# Altium integrated library altera.IntLib: 68 symbols (part 2 of 6)
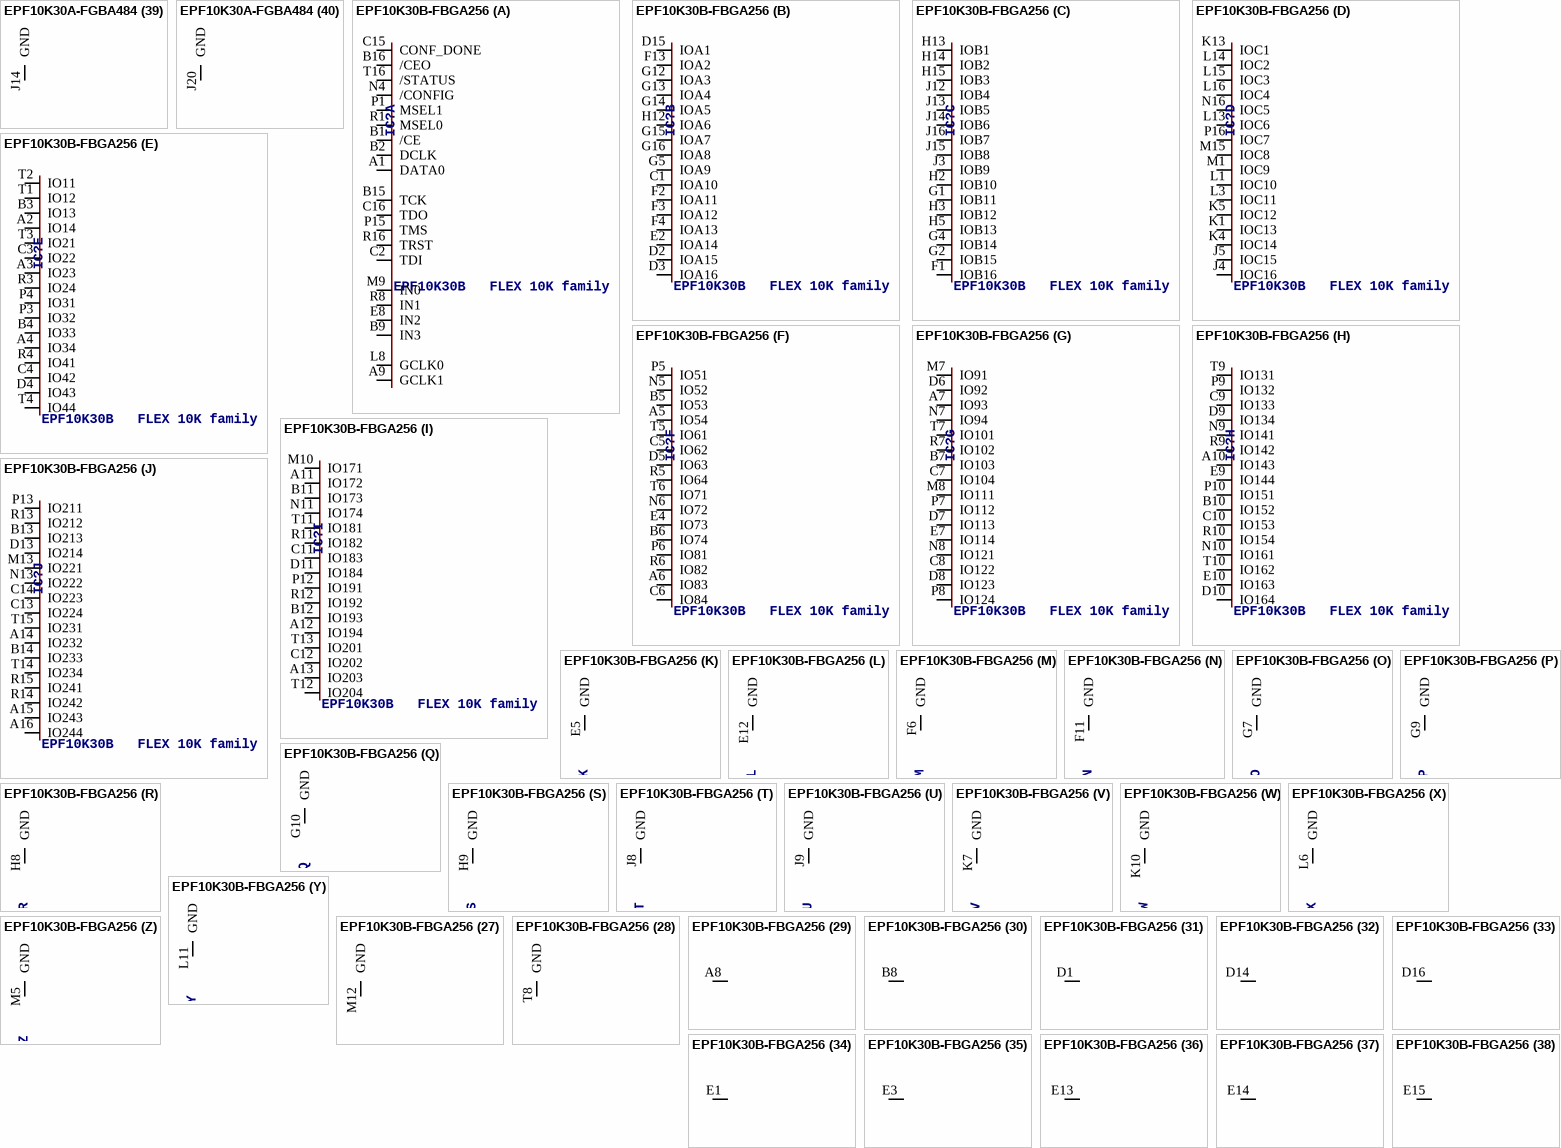
[diagram p58: symbols EPF10K30A-FGBA484 to EPF10K30B-FBGA256]

## EPF10K30A-FGBA484
designator IC?, comment EPF10K30   FLEX 10K family
MPN: EPF10K30AFC484-1; OC_FARNELL: unknown; OC_NEWARK: 51R8942
footprint FBGA484
part A pins: D4 DATA0, D12 GCLK1, E4 /CE, E5 DCLK, E12 IN3, E18 TCK, E19 /CEO, F5 TDI, F18 CONF_DONE, F19 TDO, H11 IN2, P11 GCLK0, R12 IN0, T7 /CONFIG, U4 MSEL0, U18 TMS, V4 MSEL1, V11 IN1, V19 TRST, W19 /STATUS
part B pins: F4 IOA9, G5 IOA8, G6 IOA10, G18 IOA4, G19 IOA3, H4 IOA6, H16 IOA1, H17 IOA2, H18 IOA5, J6 IOA11, J7 IOA7, J16 IOA12
part C pins: H5 IOB10, J4 IOB8, J5 IOB7, J17 IOB1, J18 IOB4, J19 IOB11, K7 IOB6, K8 IOB9, K15 IOB2, K16 IOB3, L8 IOB5
part D pins: K4 IOC11, K5 IOC10, K17 IOC1, K18 IOC3, K19 IOC4, L5 IOC7, L6 IOC8, L7 IOC9, L15 IOC2, L16 IOC12, L17 IOC5, M8 IOC6
part E pins: L18 IOD1, M5 IOD9, M6 IOD10, M7 IOD11, M15 IOD2, M16 IOD3, M17 IOD4, M18 IOD6, M19 IOD5, N4 IOD8, N7 IOD12, N15 IOD7
part F pins: N5 IOE10, N8 IOE9, N16 IOE2, N18 IOE1, P4 IOE8, P6 IOE11, P16 IOE6, P17 IOE3, P18 IOE4, P19 IOE5, R5 IOE7
part G pins: R4 IOF10, R6 IOF11, R7 IOF9, R16 IOF2, R18 IOF1, T4 IOF6, T5 IOF8, T6 IOF7, T16 IOF12, T17 IOF3, T19 IOF4, U5 IOF5
part H pins: AA5 IO44, C3 IO14, C4 IO24, C5 IO34, D5 IO22, D6 IO42, E6 IO12, E7 IO43, F6 IO32, U6 IO31, V6 IO41, W3 IO13, W4 IO11, W5 IO23, W6 IO21, Y5 IO33
part I pins: AB6 IO84, B6 IO53, B7 IO83, C7 IO74, D7 IO52, D8 IO82, E8 IO72, F7 IO62, G7 IO63, T8 IO71, U7 IO51, U8 IO81, V7 IO73, W7 IO61, Y6 IO54, Y7 IO64
part J pins: AA7 IO92, AA8 IO114, B8 IO104, C8 IO94, D9 IO123, E9 IO112, F8 IO93, F9 IO122, G8 IO102, H7 IO113, T9 IO101, U9 IO111, V8 IO103, V9 IO121, W8 IO91, W9 IO124
part K pins: A10 IO134, AA10 IO164, B11 IO163, D10 IO143, E10 IO144, F10 IO153, G9 IO132, G10 IO152, H10 IO162, R10 IO133, R11 IO161, T10 IO131, U10 IO142, V10 IO151, W10 IO141, Y10 IO154
part L pins: AB10 IO174, B13 IO194, D11 IO173, E11 IO172, F11 IO182, F12 IO192, G11 IO181, G12 IO204, H12 IO203, T11 IO171, T12 IO201, U11 IO183, U12 IO202, V12 IO193, W12 IO191, Y11 IO184
part M pins: AA14 IO234, AB14 IO224, B14 IO214, B15 IO243, D13 IO212, D14 IO242, E13 IO223, F13 IO222, G13 IO233, H13 IO232, R13 IO241, T13 IO231, U13 IO213, V13 IO211, W13 IO221, Y14 IO244
part N pins: A16 IO254, A17 IO272, AA16 IO284, D15 IO273, E14 IO252, E15 IO282, F14 IO264, F15 IO283, G14 IO263, T14 IO261, U14 IO262, U15 IO281, V14 IO253, V15 IO271, W14 IO251, Y15 IO274
part O pins: A18 IO294, A19 IO303, AA17 IO304, AA18 IO313, B18 IO314, D16 IO302, E16 IO312, F16 IO292, G16 IO323, G17 IO322, U16 IO301, U17 IO293, V16 IO321, W15 IO291, W16 IO311, Y17 IO324
part P pins: AA19 IO344, AA20 IO353, C18 IO334, C19 IO354, C20 IO364, D17 IO342, D18 IO352, D19 IO362, E17 IO343, F17 IO332, U19 IO363, V17 IO331, V18 IO361, W17 IO341, W18 IO351, Y18 IO333
part Q pins: AA1 GND (power)
part R pins: AA6 GND (power)
part S pins: AA22 GND (power)
part T pins: AB11 GND (power)
part U pins: AB16 GND (power)
part V pins: A1 GND (power)
part W pins: A8 GND (power)
part X pins: A22 GND (power)
part Y pins: B1 GND (power)
part Z pins: B2 GND (power)
part 27 pins: B17 GND (power)
part 28 pins: B21 GND (power)
part 29 pins: B22 GND (power)
part 30 pins: C2 GND (power)
part 31 pins: C21 GND (power)
part 32 pins: E21 GND (power)
part 33 pins: G3 GND (power)
part 34 pins: G21 GND (power)
part 35 pins: H2 GND (power)
part 36 pins: H8 GND (power)
part 37 pins: H15 GND (power)
part 38 pins: J9 GND (power)
part 39 pins: J14 GND (power)
part 40 pins: J20 GND (power)
part 41 pins: K3 GND (power)
part 42 pins: K10 GND (power)
part 43 pins: K12 GND (power)
part 44 pins: K13 GND (power)
part 45 pins: L11 GND (power)
part 46 pins: L12 GND (power)
part 47 pins: M11 GND (power)
part 48 pins: M12 GND (power)
part 49 pins: M20 GND (power)
part 50 pins: N10 GND (power)
part 51 pins: N13 GND (power)
part 52 pins: P9 GND (power)
part 53 pins: P14 GND (power)
part 54 pins: R8 GND (power)
part 55 pins: R15 GND (power)
part 56 pins: R22 GND (power)
part 57 pins: T1 GND (power)
part 58 pins: V3 GND (power)
part 59 pins: W11 GND (power)
part 60 pins: W20 GND (power)
part 61 pins: Y1 GND (power)
part 62 pins: Y2 GND (power)
part 63 pins: Y3 GND (power)
part 64 pins: Y21 GND (power)
part 65 pins: Y22 GND (power)
part 66 pins: AA2 NC
part 67 pins: AA3 NC
part 68 pins: AA4 NC
part 69 pins: AA9 NC
part 70 pins: AA11 NC
part 71 pins: AA13 NC
part 72 pins: AA15 NC
part 73 pins: AA21 NC
part 74 pins: AB1 NC
part 75 pins: AB2 NC
part 76 pins: AB3 NC
part 77 pins: AB4 NC
part 78 pins: AB5 NC
part 79 pins: AB7 NC
part 80 pins: AB8 NC
part 81 pins: AB9 NC
part 82 pins: AB12 NC
part 83 pins: AB15 NC
part 84 pins: AB17 NC
part 85 pins: AB18 NC
part 86 pins: AB19 NC
part 87 pins: AB20 NC
part 88 pins: AB21 NC
part 89 pins: AB22 NC
part 90 pins: A2 NC
part 91 pins: A3 NC
part 92 pins: A4 NC
part 93 pins: A5 NC
part 94 pins: A7 NC
part 95 pins: A9 NC
part 96 pins: A11 NC
part 97 pins: A12 NC
part 98 pins: A14 NC
part 99 pins: A15 NC
part 100 pins: A20 NC
part 101 pins: A21 NC
part 102 pins: B3 NC
part 103 pins: B4 NC
part 104 pins: B9 NC
part 105 pins: B10 NC
part 106 pins: B12 NC
part 107 pins: B16 NC
part 108 pins: B19 NC
part 109 pins: B20 NC
part 110 pins: C1 NC
part 111 pins: C6 NC
part 112 pins: C9 NC
part 113 pins: C10 NC
part 114 pins: C12 NC
part 115 pins: C13 NC
part 116 pins: C14 NC
part 117 pins: C16 NC
part 118 pins: C17 NC
part 119 pins: C22 NC
part 120 pins: D1 NC
part 121 pins: D2 NC
part 122 pins: D3 NC
part 123 pins: D20 NC
part 124 pins: D21 NC
part 125 pins: D22 NC
part 126 pins: E2 NC
part 127 pins: E3 NC
part 128 pins: E20 NC
part 129 pins: E22 NC
part 130 pins: F1 NC
part 131 pins: F2 NC
part 132 pins: F3 NC
part 133 pins: F20 NC
part 134 pins: F21 NC
part 135 pins: F22 NC
part 136 pins: G2 NC
part 137 pins: G4 NC
part 138 pins: G20 NC
part 139 pins: G22 NC
part 140 pins: H1 NC
part 141 pins: H3 NC
part 142 pins: H6 NC
part 143 pins: H19 NC
part 144 pins: H21 NC
part 145 pins: H22 NC
part 146 pins: J1 NC
part 147 pins: J2 NC
part 148 pins: J3 NC
part 149 pins: J21 NC
part 150 pins: J22 NC
part 151 pins: K1 NC
part 152 pins: K2 NC
part 153 pins: K6 NC
part 154 pins: K21 NC
part 155 pins: K22 NC
part 156 pins: L1 NC
part 157 pins: L2 NC
part 158 pins: L3 NC
part 159 pins: L4 NC
part 160 pins: L19 NC
part 161 pins: L20 NC
part 162 pins: L21 NC
part 163 pins: L22 NC
part 164 pins: M1 NC
part 165 pins: M2 NC
part 166 pins: M3 NC
part 167 pins: M4 NC
part 168 pins: M21 NC
part 169 pins: M22 NC
part 170 pins: N1 NC
part 171 pins: N2 NC
part 172 pins: N6 NC
part 173 pins: N17 NC
part 174 pins: N19 NC
part 175 pins: U21 NC
part 176 pins: N21 NC
part 177 pins: N22 NC
part 178 pins: P1 NC
part 179 pins: P2 NC
part 180 pins: P3 NC
part 181 pins: P5 NC
part 182 pins: P7 NC
part 183 pins: P20 NC
part 184 pins: P21 NC
part 185 pins: P22 NC
part 186 pins: R2 NC
part 187 pins: R3 NC
part 188 pins: R17 NC
part 189 pins: R19 NC
part 190 pins: R20 NC
part 191 pins: R21 NC
part 192 pins: T2 NC
part 193 pins: T18 NC
part 194 pins: T20 NC
part 195 pins: T21 NC
part 196 pins: U1 NC
part 197 pins: U2 NC
part 198 pins: U3 NC
part 199 pins: U20 NC
part 200 pins: U22 NC
part 201 pins: V1 NC
part 202 pins: V2 NC
part 203 pins: V20 NC
part 204 pins: V21 NC
part 205 pins: W1 NC
part 206 pins: W2 NC
part 207 pins: W22 NC
part 208 pins: Y4 NC
part 209 pins: Y9 NC
part 210 pins: Y12 NC
part 211 pins: Y13 NC
part 212 pins: Y16 NC
part 213 pins: Y19 NC
part 214 pins: Y20 NC
part 215 pins: AA12 VCC (power)
part 216 pins: C11 VCC (power)
part 217 pins: C15 VCC (power)
part 218 pins: H14 VCC (power)
part 219 pins: J8 VCC (power)
part 220 pins: J10 VCC (power)
part 221 pins: J12 VCC (power)
part 222 pins: J15 VCC (power)
part 223 pins: L9 VCC (power)
part 224 pins: L10 VCC (power)
part 225 pins: L13 VCC (power)
part 226 pins: M10 VCC (power)
part 227 pins: M13 VCC (power)
part 228 pins: M14 VCC (power)
part 229 pins: N12 VCC (power)
part 230 pins: P8 VCC (power)
part 231 pins: P10 VCC (power)
part 232 pins: P12 VCC (power)
part 233 pins: P15 VCC (power)
part 234 pins: R14 VCC (power)
part 235 pins: V5 VCC (power)
part 236 pins: W21 VCC (power)
part 237 pins: Y8 VCC (power)
part 238 pins: AB13 VCCIO (power)
part 239 pins: A6 VCCIO (power)
part 240 pins: A13 VCCIO (power)
part 241 pins: B5 VCCIO (power)
part 242 pins: E1 VCCIO (power)
part 243 pins: G1 VCCIO (power)
part 244 pins: G15 VCCIO (power)
part 245 pins: H9 VCCIO (power)
part 246 pins: H20 VCCIO (power)
part 247 pins: J11 VCCIO (power)
part 248 pins: J13 VCCIO (power)
part 249 pins: K9 VCCIO (power)
part 250 pins: K11 VCCIO (power)
part 251 pins: K14 VCCIO (power)
part 252 pins: K20 VCCIO (power)
part 253 pins: L14 VCCIO (power)
part 254 pins: M9 VCCIO (power)
part 255 pins: N3 VCCIO (power)
part 256 pins: N9 VCCIO (power)
part 257 pins: N11 VCCIO (power)
part 258 pins: N14 VCCIO (power)
part 259 pins: N20 VCCIO (power)
part 260 pins: P13 VCCIO (power)
part 261 pins: R1 VCCIO (power)
part 262 pins: R9 VCCIO (power)
part 263 pins: T3 VCCIO (power)
part 264 pins: T15 VCCIO (power)
part 265 pins: T22 VCCIO (power)
part 266 pins: V22 VCCIO (power)

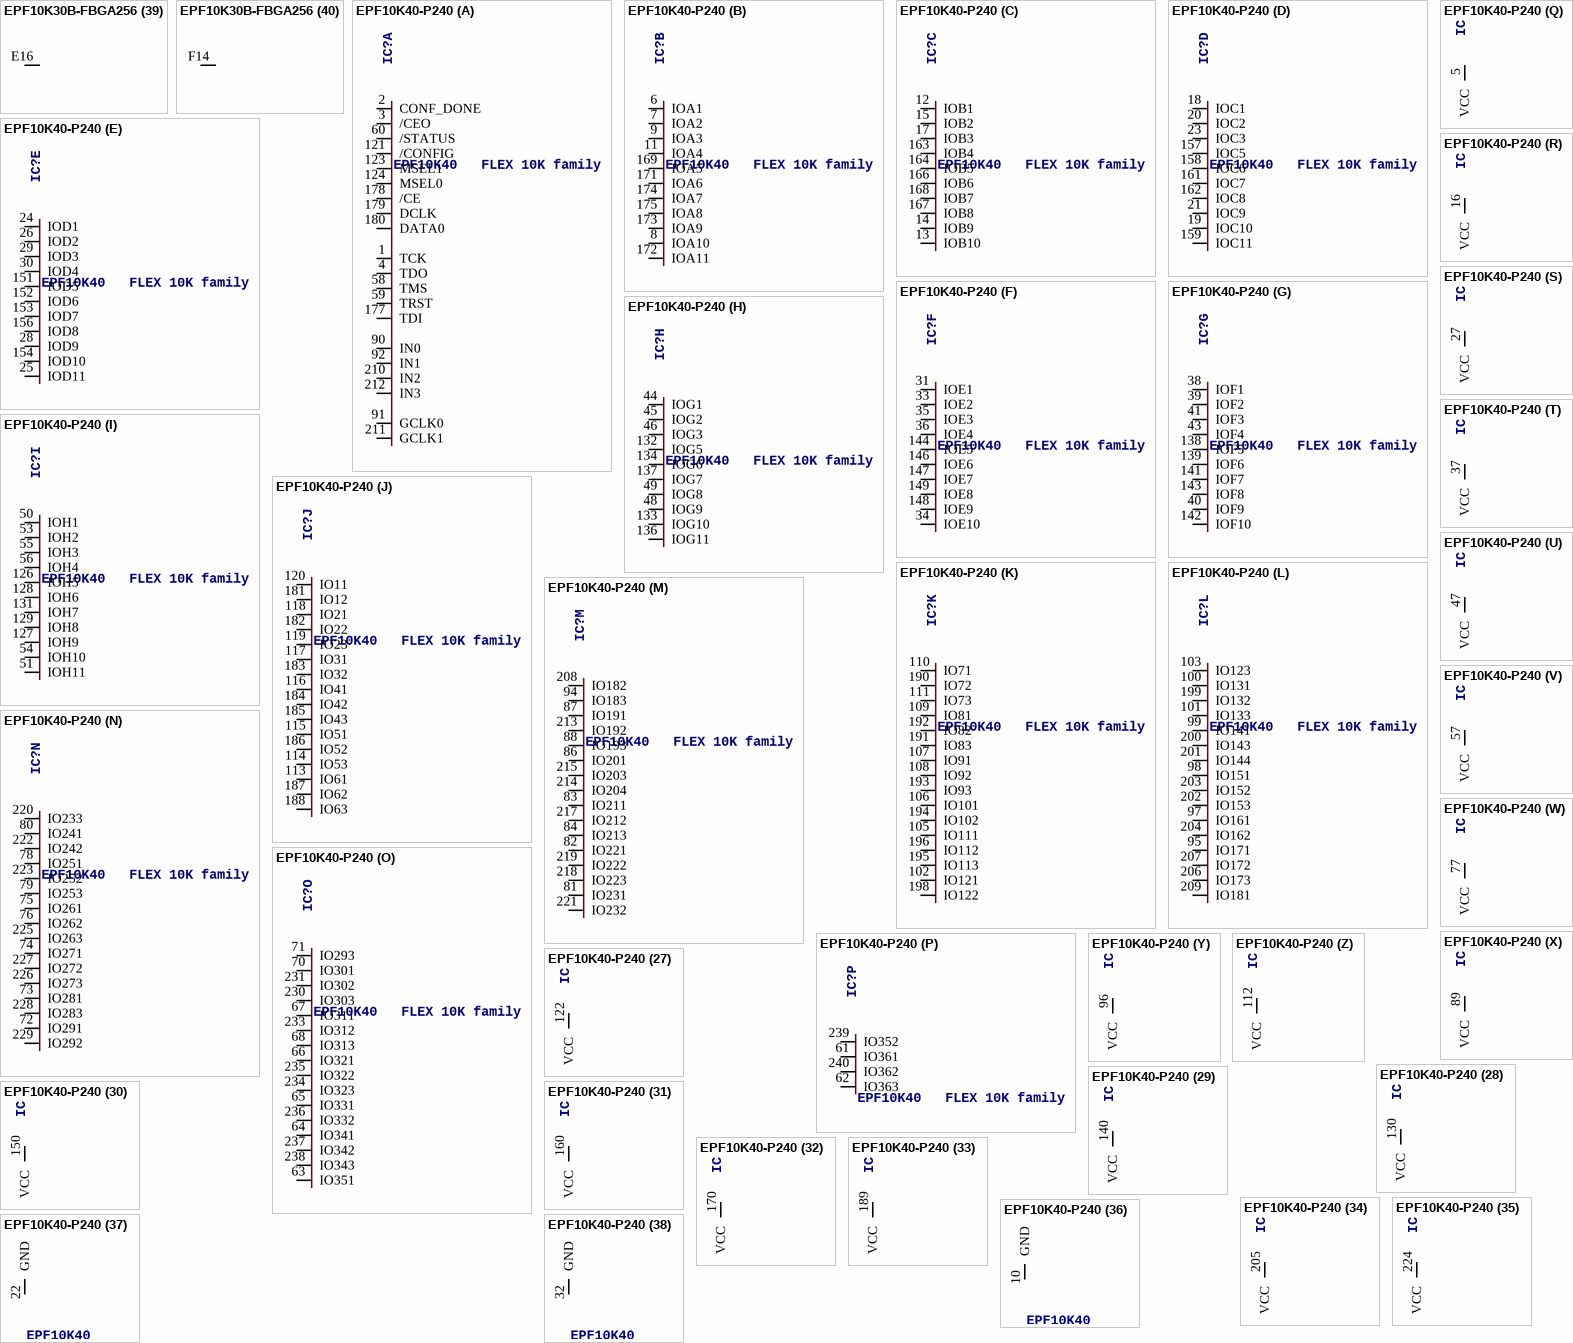
[diagram p12: symbols EPF10K30B-FBGA256 to EPF10K40-P240]

## EPF10K30B-FBGA256
designator IC?, comment EPF10K30B   FLEX 10K family
OC_FARNELL: unknown; OC_NEWARK: unknown
footprint FBGA256
part A pins: A1 DATA0, A9 GCLK1, B1 /CE, B2 DCLK, B9 IN3, B15 TCK, B16 /CEO, C2 TDI, C15 CONF_DONE, C16 TDO, E8 IN2, L8 GCLK0, M9 IN0, N4 /CONFIG, P1 MSEL1, P15 TMS, R1 MSEL0, R8 IN1, R16 TRST, T16 /STATUS
part B pins: C1 IOA10, D2 IOA15, D3 IOA16, D15 IOA1, E2 IOA14, F2 IOA11, F3 IOA12, F4 IOA13, F13 IOA2, G5 IOA9, G12 IOA3, G13 IOA4, G14 IOA5, G15 IOA7, G16 IOA8, H12 IOA6
part C pins: F1 IOB16, G1 IOB11, G2 IOB15, G4 IOB14, H2 IOB10, H3 IOB12, H5 IOB13, H13 IOB1, H14 IOB2, H15 IOB3, J3 IOB9, J12 IOB4, J13 IOB5, J14 IOB6, J15 IOB8, J16 IOB7
part D pins: J4 IOC16, J5 IOC15, K1 IOC13, K4 IOC14, K5 IOC12, K13 IOC1, L1 IOC10, L3 IOC11, L13 IOC6, L14 IOC2, L15 IOC3, L16 IOC4, M1 IOC9, M15 IOC8, N16 IOC5, P16 IOC7
part E pins: A2 IO14, A3 IO23, A4 IO34, B3 IO13, B4 IO33, C3 IO22, C4 IO42, D4 IO43, P3 IO32, P4 IO31, R3 IO24, R4 IO41, T1 IO12, T2 IO11, T3 IO21, T4 IO44
part F pins: A5 IO54, A6 IO83, B5 IO53, B6 IO74, C5 IO62, C6 IO84, D5 IO63, E4 IO73, N5 IO52, N6 IO72, P5 IO51, P6 IO81, R5 IO64, R6 IO82, T5 IO61, T6 IO71
part G pins: A7 IO93, B7 IO103, C7 IO104, C8 IO122, D6 IO92, D7 IO113, D8 IO123, E7 IO114, M7 IO91, M8 IO111, N7 IO94, N8 IO121, P7 IO112, P8 IO124, R7 IO102, T7 IO101
part H pins: A10 IO143, B10 IO152, C9 IO133, C10 IO153, D9 IO134, D10 IO164, E9 IO144, E10 IO163, N9 IO141, N10 IO161, P9 IO132, P10 IO151, R9 IO142, R10 IO154, T9 IO131, T10 IO162
part I pins: A11 IO172, A12 IO194, A13 IO203, B11 IO173, B12 IO193, C11 IO183, C12 IO202, D11 IO184, M10 IO171, N11 IO174, P12 IO191, R11 IO182, R12 IO192, T11 IO181, T12 IO204, T13 IO201
part J pins: A14 IO232, A15 IO243, A16 IO244, B13 IO213, B14 IO233, C13 IO224, C14 IO223, D13 IO214, M13 IO221, N13 IO222, P13 IO211, R13 IO212, R14 IO242, R15 IO241, T14 IO234, T15 IO231
part K pins: E5 GND (power)
part L pins: E12 GND (power)
part M pins: F6 GND (power)
part N pins: F11 GND (power)
part O pins: G7 GND (power)
part P pins: G9 GND (power)
part Q pins: G10 GND (power)
part R pins: H8 GND (power)
part S pins: H9 GND (power)
part T pins: J8 GND (power)
part U pins: J9 GND (power)
part V pins: K7 GND (power)
part W pins: K10 GND (power)
part X pins: L6 GND (power)
part Y pins: L11 GND (power)
part Z pins: M5 GND (power)
part 27 pins: M12 GND (power)
part 28 pins: T8 GND (power)
part 29 pins: A8 NC
part 30 pins: B8 NC
part 31 pins: D1 NC
part 32 pins: D14 NC
part 33 pins: D16 NC
part 34 pins: E1 NC
part 35 pins: E3 NC
part 36 pins: E13 NC
part 37 pins: E14 NC
part 38 pins: E15 NC
part 39 pins: E16 NC
part 40 pins: F14 NC
part 41 pins: F15 NC
part 42 pins: F16 NC
part 43 pins: G3 NC
part 44 pins: H1 NC
part 45 pins: H4 NC
part 46 pins: H16 NC
part 47 pins: J1 NC
part 48 pins: J2 NC
part 49 pins: K2 NC
part 50 pins: K3 NC
part 51 pins: K12 NC
part 52 pins: K14 NC
part 53 pins: K15 NC
part 54 pins: K16 NC
part 55 pins: L2 NC
part 56 pins: L4 NC
part 57 pins: M2 NC
part 58 pins: M3 NC
part 59 pins: M4 NC
part 60 pins: M14 NC
part 61 pins: M16 NC
part 62 pins: N1 NC
part 63 pins: N2 NC
part 64 pins: N3 NC
part 65 pins: N14 NC
part 66 pins: N15 NC
part 67 pins: P2 NC
part 68 pins: P11 NC
part 69 pins: P14 NC
part 70 pins: E11 VCC (power)
part 71 pins: F5 VCC (power)
part 72 pins: F7 VCC (power)
part 73 pins: F9 VCC (power)
part 74 pins: F12 VCC (power)
part 75 pins: H6 VCC (power)
part 76 pins: H7 VCC (power)
part 77 pins: H10 VCC (power)
part 78 pins: J7 VCC (power)
part 79 pins: J10 VCC (power)
part 80 pins: J11 VCC (power)
part 81 pins: K9 VCC (power)
part 82 pins: L5 VCC (power)
part 83 pins: L7 VCC (power)
part 84 pins: L9 VCC (power)
part 85 pins: L12 VCC (power)
part 86 pins: M11 VCC (power)
part 87 pins: R2 VCC (power)
part 88 pins: D12 VCCIO (power)
part 89 pins: E6 VCCIO (power)
part 90 pins: F8 VCCIO (power)
part 91 pins: F10 VCCIO (power)
part 92 pins: G6 VCCIO (power)
part 93 pins: G8 VCCIO (power)
part 94 pins: G11 VCCIO (power)
part 95 pins: H11 VCCIO (power)
part 96 pins: J6 VCCIO (power)
part 97 pins: K6 VCCIO (power)
part 98 pins: K8 VCCIO (power)
part 99 pins: K11 VCCIO (power)
part 100 pins: L10 VCCIO (power)
part 101 pins: M6 VCCIO (power)
part 102 pins: N12 VCCIO (power)

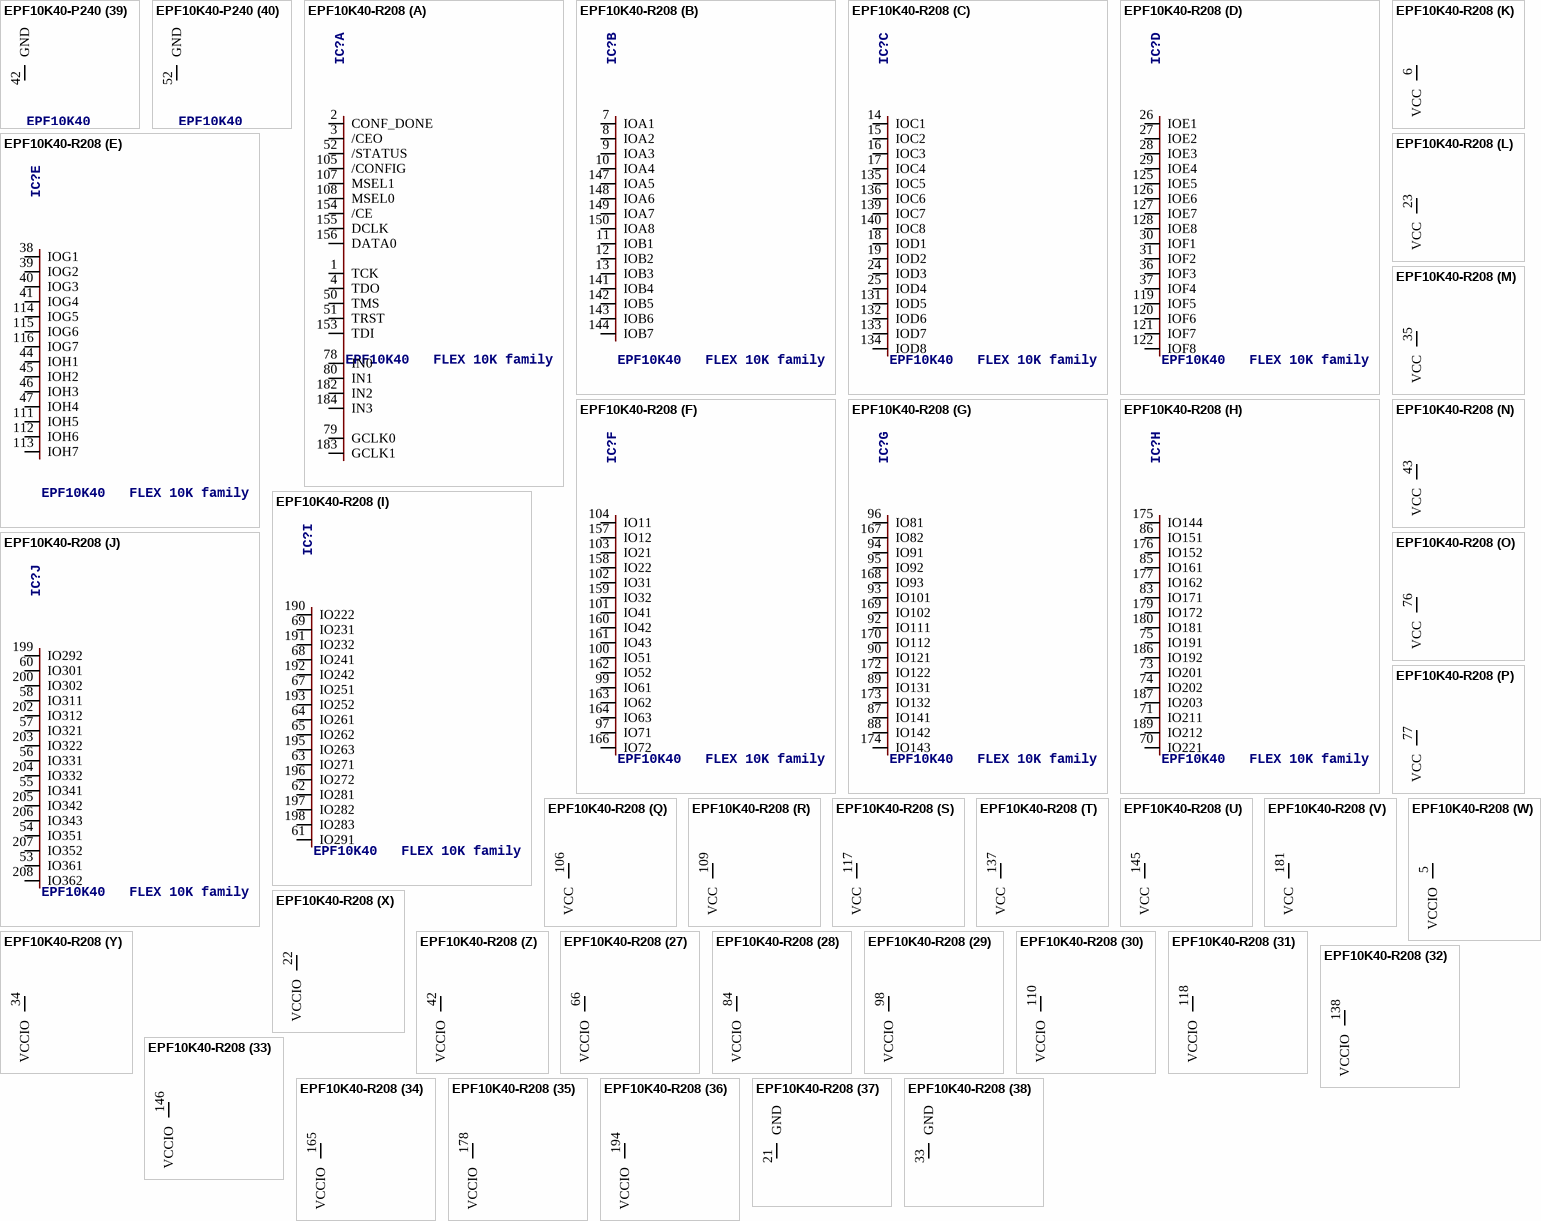
[diagram p13: symbols EPF10K40-P240 to EPF10K40-R208]

## EPF10K40-P240
designator IC?, comment EPF10K40   FLEX 10K family
MPN: EPF10K40RC240-4N; OC_FARNELL: unknown; OC_NEWARK: 51R9017
footprint PQFP240
part A pins: 1 TCK, 2 CONF_DONE, 3 /CEO, 4 TDO, 58 TMS, 59 TRST, 60 /STATUS, 90 IN0, 91 GCLK0, 92 IN1, 121 /CONFIG, 123 MSEL1, 124 MSEL0, 177 TDI, 178 /CE, 179 DCLK, 180 DATA0, 210 IN2, 211 GCLK1, 212 IN3
part B pins: 6 IOA1, 7 IOA2, 8 IOA10, 9 IOA3, 11 IOA4, 169 IOA5, 171 IOA6, 172 IOA11, 173 IOA9, 174 IOA7, 175 IOA8
part C pins: 12 IOB1, 13 IOB10, 14 IOB9, 15 IOB2, 17 IOB3, 163 IOB4, 164 IOB5, 166 IOB6, 167 IOB8, 168 IOB7
part D pins: 18 IOC1, 19 IOC10, 20 IOC2, 21 IOC9, 23 IOC3, 157 IOC5, 158 IOC6, 159 IOC11, 161 IOC7, 162 IOC8
part E pins: 24 IOD1, 25 IOD11, 26 IOD2, 28 IOD9, 29 IOD3, 30 IOD4, 151 IOD5, 152 IOD6, 153 IOD7, 154 IOD10, 156 IOD8
part F pins: 31 IOE1, 33 IOE2, 34 IOE10, 35 IOE3, 36 IOE4, 144 IOE5, 146 IOE6, 147 IOE7, 148 IOE9, 149 IOE8
part G pins: 38 IOF1, 39 IOF2, 40 IOF9, 41 IOF3, 43 IOF4, 138 IOF5, 139 IOF6, 141 IOF7, 142 IOF10, 143 IOF8
part H pins: 44 IOG1, 45 IOG2, 46 IOG3, 48 IOG9, 49 IOG8, 132 IOG5, 133 IOG10, 134 IOG6, 136 IOG11, 137 IOG7
part I pins: 50 IOH1, 51 IOH11, 53 IOH2, 54 IOH10, 55 IOH3, 56 IOH4, 126 IOH5, 127 IOH9, 128 IOH6, 129 IOH8, 131 IOH7
part J pins: 113 IO61, 114 IO53, 115 IO51, 116 IO41, 117 IO31, 118 IO21, 119 IO23, 120 IO11, 181 IO12, 182 IO22, 183 IO32, 184 IO42, 185 IO43, 186 IO52, 187 IO62, 188 IO63
part K pins: 102 IO121, 105 IO111, 106 IO101, 107 IO91, 108 IO92, 109 IO81, 110 IO71, 111 IO73, 190 IO72, 191 IO83, 192 IO82, 193 IO93, 194 IO102, 195 IO113, 196 IO112, 198 IO122
part L pins: 95 IO171, 97 IO161, 98 IO151, 99 IO141, 100 IO131, 101 IO133, 103 IO123, 199 IO132, 200 IO143, 201 IO144, 202 IO153, 203 IO152, 204 IO162, 206 IO173, 207 IO172, 209 IO181
part M pins: 81 IO231, 82 IO221, 83 IO211, 84 IO213, 86 IO201, 87 IO191, 88 IO193, 94 IO183, 208 IO182, 213 IO192, 214 IO204, 215 IO203, 217 IO212, 218 IO223, 219 IO222, 221 IO232
part N pins: 72 IO291, 73 IO281, 74 IO271, 75 IO261, 76 IO262, 78 IO251, 79 IO253, 80 IO241, 220 IO233, 222 IO242, 223 IO252, 225 IO263, 226 IO273, 227 IO272, 228 IO283, 229 IO292
part O pins: 63 IO351, 64 IO341, 65 IO331, 66 IO321, 67 IO311, 68 IO313, 70 IO301, 71 IO293, 230 IO303, 231 IO302, 233 IO312, 234 IO323, 235 IO322, 236 IO332, 237 IO342, 238 IO343
part P pins: 61 IO361, 62 IO363, 239 IO352, 240 IO362
part Q pins: 5 VCC (power)
part R pins: 16 VCC (power)
part S pins: 27 VCC (power)
part T pins: 37 VCC (power)
part U pins: 47 VCC (power)
part V pins: 57 VCC (power)
part W pins: 77 VCC (power)
part X pins: 89 VCC (power)
part Y pins: 96 VCC (power)
part Z pins: 112 VCC (power)
part 27 pins: 122 VCC (power)
part 28 pins: 130 VCC (power)
part 29 pins: 140 VCC (power)
part 30 pins: 150 VCC (power)
part 31 pins: 160 VCC (power)
part 32 pins: 170 VCC (power)
part 33 pins: 189 VCC (power)
part 34 pins: 205 VCC (power)
part 35 pins: 224 VCC (power)
part 36 pins: 10 GND (power)
part 37 pins: 22 GND (power)
part 38 pins: 32 GND (power)
part 39 pins: 42 GND (power)
part 40 pins: 52 GND (power)
part 41 pins: 69 GND (power)
part 42 pins: 85 GND (power)
part 43 pins: 93 GND (power)
part 44 pins: 104 GND (power)
part 45 pins: 125 GND (power)
part 46 pins: 135 GND (power)
part 47 pins: 145 GND (power)
part 48 pins: 155 GND (power)
part 49 pins: 165 GND (power)
part 50 pins: 176 GND (power)
part 51 pins: 197 GND (power)
part 52 pins: 216 GND (power)
part 53 pins: 232 GND (power)

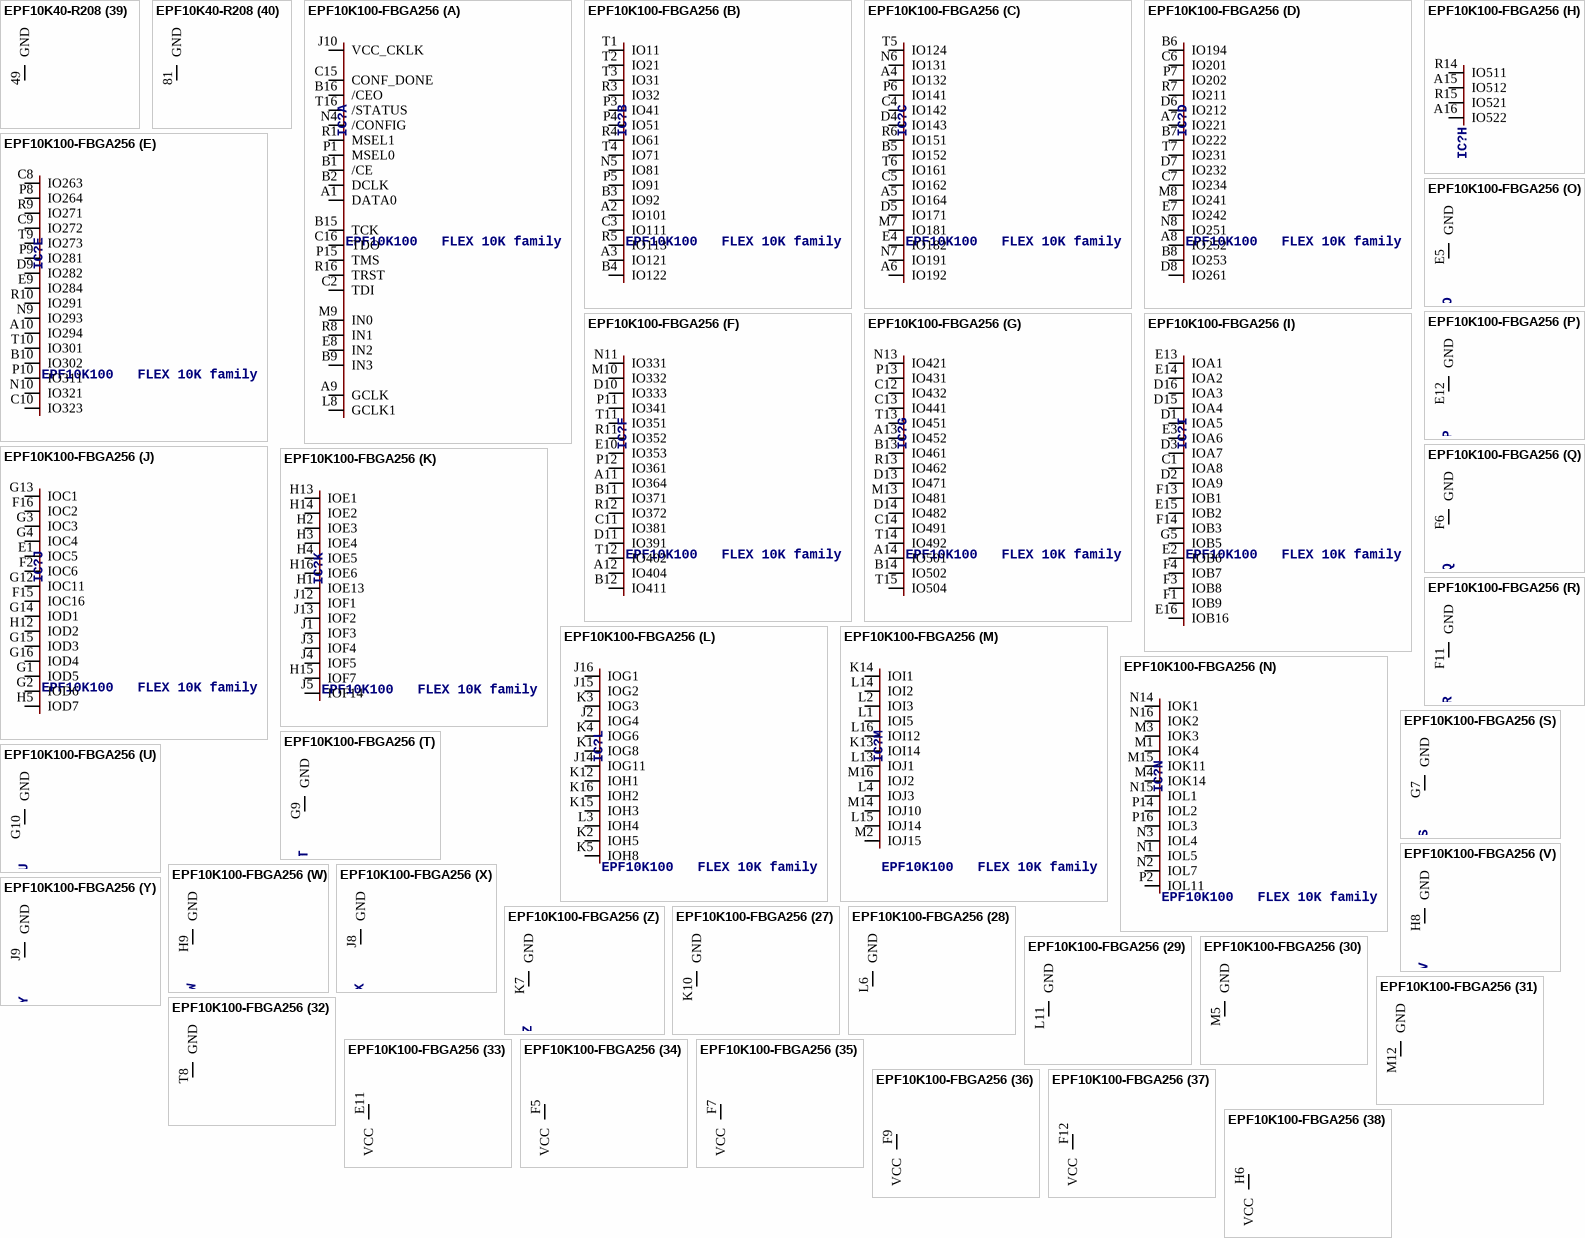
[diagram p14: symbols EPF10K40-R208 to EPF10K100-FBGA256]

## EPF10K40-R208
designator IC?, comment EPF10K40   FLEX 10K family
MPN: EPF10K40RC208-3; OC_FARNELL: unknown; OC_NEWARK: 51R9013
footprint RQFP208
part A pins: 1 TCK, 2 CONF_DONE, 3 /CEO, 4 TDO, 50 TMS, 51 TRST, 52 /STATUS, 78 IN0, 79 GCLK0, 80 IN1, 105 /CONFIG, 107 MSEL1, 108 MSEL0, 153 TDI, 154 /CE, 155 DCLK, 156 DATA0, 182 IN2, 183 GCLK1, 184 IN3
part B pins: 7 IOA1, 8 IOA2, 9 IOA3, 10 IOA4, 11 IOB1, 12 IOB2, 13 IOB3, 141 IOB4, 142 IOB5, 143 IOB6, 144 IOB7, 147 IOA5, 148 IOA6, 149 IOA7, 150 IOA8
part C pins: 14 IOC1, 15 IOC2, 16 IOC3, 17 IOC4, 18 IOD1, 19 IOD2, 24 IOD3, 25 IOD4, 131 IOD5, 132 IOD6, 133 IOD7, 134 IOD8, 135 IOC5, 136 IOC6, 139 IOC7, 140 IOC8
part D pins: 26 IOE1, 27 IOE2, 28 IOE3, 29 IOE4, 30 IOF1, 31 IOF2, 36 IOF3, 37 IOF4, 119 IOF5, 120 IOF6, 121 IOF7, 122 IOF8, 125 IOE5, 126 IOE6, 127 IOE7, 128 IOE8
part E pins: 38 IOG1, 39 IOG2, 40 IOG3, 41 IOG4, 44 IOH1, 45 IOH2, 46 IOH3, 47 IOH4, 111 IOH5, 112 IOH6, 113 IOH7, 114 IOG5, 115 IOG6, 116 IOG7
part F pins: 97 IO71, 99 IO61, 100 IO51, 101 IO41, 102 IO31, 103 IO21, 104 IO11, 157 IO12, 158 IO22, 159 IO32, 160 IO42, 161 IO43, 162 IO52, 163 IO62, 164 IO63, 166 IO72
part G pins: 87 IO141, 88 IO142, 89 IO131, 90 IO121, 92 IO111, 93 IO101, 94 IO91, 95 IO92, 96 IO81, 167 IO82, 168 IO93, 169 IO102, 170 IO112, 172 IO122, 173 IO132, 174 IO143
part H pins: 70 IO221, 71 IO211, 73 IO201, 74 IO202, 75 IO191, 83 IO171, 85 IO161, 86 IO151, 175 IO144, 176 IO152, 177 IO162, 179 IO172, 180 IO181, 186 IO192, 187 IO203, 189 IO212
part I pins: 61 IO291, 62 IO281, 63 IO271, 64 IO261, 65 IO262, 67 IO251, 68 IO241, 69 IO231, 190 IO222, 191 IO232, 192 IO242, 193 IO252, 195 IO263, 196 IO272, 197 IO282, 198 IO283
part J pins: 53 IO361, 54 IO351, 55 IO341, 56 IO331, 57 IO321, 58 IO311, 60 IO301, 199 IO292, 200 IO302, 202 IO312, 203 IO322, 204 IO332, 205 IO342, 206 IO343, 207 IO352, 208 IO362
part K pins: 6 VCC (power)
part L pins: 23 VCC (power)
part M pins: 35 VCC (power)
part N pins: 43 VCC (power)
part O pins: 76 VCC (power)
part P pins: 77 VCC (power)
part Q pins: 106 VCC (power)
part R pins: 109 VCC (power)
part S pins: 117 VCC (power)
part T pins: 137 VCC (power)
part U pins: 145 VCC (power)
part V pins: 181 VCC (power)
part W pins: 5 VCCIO (power)
part X pins: 22 VCCIO (power)
part Y pins: 34 VCCIO (power)
part Z pins: 42 VCCIO (power)
part 27 pins: 66 VCCIO (power)
part 28 pins: 84 VCCIO (power)
part 29 pins: 98 VCCIO (power)
part 30 pins: 110 VCCIO (power)
part 31 pins: 118 VCCIO (power)
part 32 pins: 138 VCCIO (power)
part 33 pins: 146 VCCIO (power)
part 34 pins: 165 VCCIO (power)
part 35 pins: 178 VCCIO (power)
part 36 pins: 194 VCCIO (power)
part 37 pins: 21 GND (power)
part 38 pins: 33 GND (power)
part 39 pins: 49 GND (power)
part 40 pins: 81 GND (power)
part 41 pins: 82 GND (power)
part 42 pins: 123 GND (power)
part 43 pins: 129 GND (power)
part 44 pins: 151 GND (power)
part 45 pins: 185 GND (power)
part 46 pins: 20 GNDIO (power)
part 47 pins: 32 GNDIO (power)
part 48 pins: 48 GNDIO (power)
part 49 pins: 59 GNDIO (power)
part 50 pins: 72 GNDIO (power)
part 51 pins: 91 GNDIO (power)
part 52 pins: 124 GNDIO (power)
part 53 pins: 130 GNDIO (power)
part 54 pins: 152 GNDIO (power)
part 55 pins: 171 GNDIO (power)
part 56 pins: 188 GNDIO (power)
part 57 pins: 201 GNDIO (power)

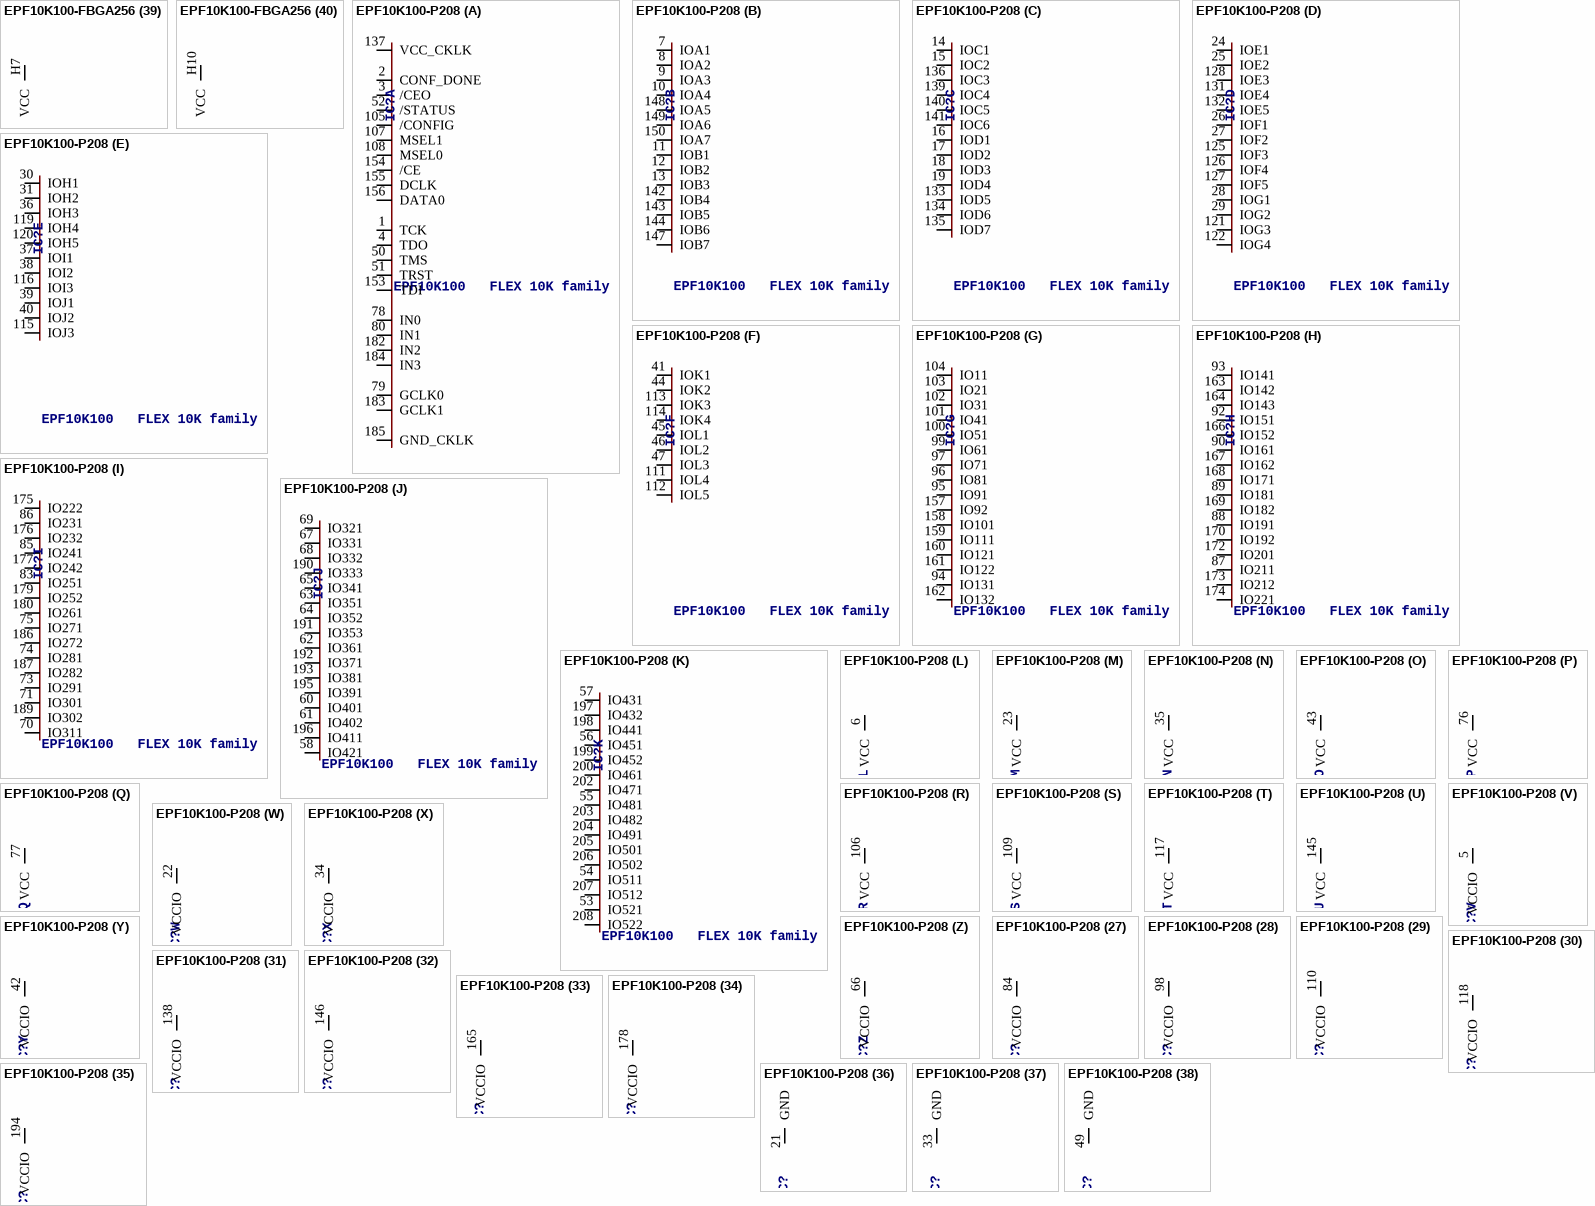
[diagram p15: symbols EPF10K100-FBGA256 to EPF10K100-P208]

## EPF10K100-FBGA256
designator IC?, comment EPF10K100   FLEX 10K family
MPN: EPF10K100EFC256-1; OC_FARNELL: unknown; OC_NEWARK: 51R8810
footprint FBGA256
part A pins: A1 DATA0, A9 GCLK, B1 /CE, B2 DCLK, B9 IN3, B15 TCK, B16 /CEO, C2 TDI, C15 CONF_DONE, C16 TDO, E8 IN2, J10 VCC_CKLK, L8 GCLK1, M9 IN0, N4 /CONFIG, P1 MSEL0, P15 TMS, R1 MSEL1, R8 IN1, R16 TRST, T16 /STATUS
part B pins: A2 IO101, A3 IO121, B3 IO92, B4 IO122, C3 IO111, N5 IO81, P3 IO41, P4 IO51, P5 IO91, R3 IO32, R4 IO61, R5 IO113, T1 IO11, T2 IO21, T3 IO31, T4 IO71
part C pins: A4 IO132, A5 IO164, A6 IO192, B5 IO152, C4 IO142, C5 IO162, D4 IO143, D5 IO171, E4 IO182, M7 IO181, N6 IO131, N7 IO191, P6 IO141, R6 IO151, T5 IO124, T6 IO161
part D pins: A7 IO221, A8 IO252, B6 IO194, B7 IO222, B8 IO253, C6 IO201, C7 IO234, D6 IO212, D7 IO232, D8 IO261, E7 IO242, M8 IO241, N8 IO251, P7 IO202, R7 IO211, T7 IO231
part E pins: A10 IO294, B10 IO302, C8 IO263, C9 IO272, C10 IO323, D9 IO282, E9 IO284, N9 IO293, N10 IO321, P8 IO264, P9 IO281, P10 IO311, R9 IO271, R10 IO291, T9 IO273, T10 IO301
part F pins: A11 IO364, A12 IO404, B11 IO371, B12 IO411, C11 IO381, D10 IO333, D11 IO391, E10 IO353, M10 IO332, N11 IO331, P11 IO341, P12 IO361, R11 IO352, R12 IO372, T11 IO351, T12 IO402
part G pins: A13 IO452, A14 IO501, B13 IO461, B14 IO502, C12 IO432, C13 IO441, C14 IO491, D13 IO471, D14 IO482, M13 IO481, N13 IO421, P13 IO431, R13 IO462, T13 IO451, T14 IO492, T15 IO504
part H pins: A15 IO512, A16 IO522, R14 IO511, R15 IO521
part I pins: C1 IOA8, D1 IOA5, D2 IOA9, D3 IOA7, D15 IOA4, D16 IOA3, E2 IOB6, E3 IOA6, E13 IOA1, E14 IOA2, E15 IOB2, E16 IOB16, F1 IOB9, F3 IOB8, F4 IOB7, F13 IOB1, F14 IOB3, G5 IOB5
part J pins: E1 IOC5, F2 IOC6, F15 IOC16, F16 IOC2, G1 IOD5, G2 IOD6, G3 IOC3, G4 IOC4, G12 IOC11, G13 IOC1, G14 IOD1, G15 IOD3, G16 IOD4, H5 IOD7, H12 IOD2
part K pins: H1 IOE13, H2 IOE3, H3 IOE4, H4 IOE5, H13 IOE1, H14 IOE2, H15 IOF7, H16 IOE6, J1 IOF3, J3 IOF4, J4 IOF5, J5 IOF14, J12 IOF1, J13 IOF2
part L pins: J2 IOG4, J14 IOG11, J15 IOG2, J16 IOG1, K1 IOG8, K2 IOH5, K3 IOG3, K4 IOG6, K5 IOH8, K12 IOH1, K15 IOH3, K16 IOH2, L3 IOH4
part M pins: K13 IOI14, K14 IOI1, L1 IOI5, L2 IOI3, L4 IOJ3, L13 IOJ1, L14 IOI2, L15 IOJ14, L16 IOI12, M2 IOJ15, M14 IOJ10, M16 IOJ2
part N pins: M1 IOK4, M3 IOK3, M4 IOK14, M15 IOK11, N1 IOL5, N2 IOL7, N3 IOL4, N14 IOK1, N15 IOL1, N16 IOK2, P2 IOL11, P14 IOL2, P16 IOL3
part O pins: E5 GND (power)
part P pins: E12 GND (power)
part Q pins: F6 GND (power)
part R pins: F11 GND (power)
part S pins: G7 GND (power)
part T pins: G9 GND (power)
part U pins: G10 GND (power)
part V pins: H8 GND (power)
part W pins: H9 GND (power)
part X pins: J8 GND (power)
part Y pins: J9 GND (power)
part Z pins: K7 GND (power)
part 27 pins: K10 GND (power)
part 28 pins: L6 GND (power)
part 29 pins: L11 GND (power)
part 30 pins: M5 GND (power)
part 31 pins: M12 GND (power)
part 32 pins: T8 GND (power)
part 33 pins: E11 VCC (power)
part 34 pins: F5 VCC (power)
part 35 pins: F7 VCC (power)
part 36 pins: F9 VCC (power)
part 37 pins: F12 VCC (power)
part 38 pins: H6 VCC (power)
part 39 pins: H7 VCC (power)
part 40 pins: H10 VCC (power)
part 41 pins: J7 VCC (power)
part 42 pins: J11 VCC (power)
part 43 pins: K9 VCC (power)
part 44 pins: L5 VCC (power)
part 45 pins: L7 VCC (power)
part 46 pins: L9 VCC (power)
part 47 pins: L12 VCC (power)
part 48 pins: M11 VCC (power)
part 49 pins: R2 VCC (power)
part 50 pins: D12 VCCIO (power)
part 51 pins: E6 VCCIO (power)
part 52 pins: F8 VCCIO (power)
part 53 pins: F10 VCCIO (power)
part 54 pins: G6 VCCIO (power)
part 55 pins: G8 VCCIO (power)
part 56 pins: G11 VCCIO (power)
part 57 pins: H11 VCCIO (power)
part 58 pins: J6 VCCIO (power)
part 59 pins: K6 VCCIO (power)
part 60 pins: K8 VCCIO (power)
part 61 pins: K11 VCCIO (power)
part 62 pins: L10 VCCIO (power)
part 63 pins: M6 VCCIO (power)
part 64 pins: N12 VCCIO (power)

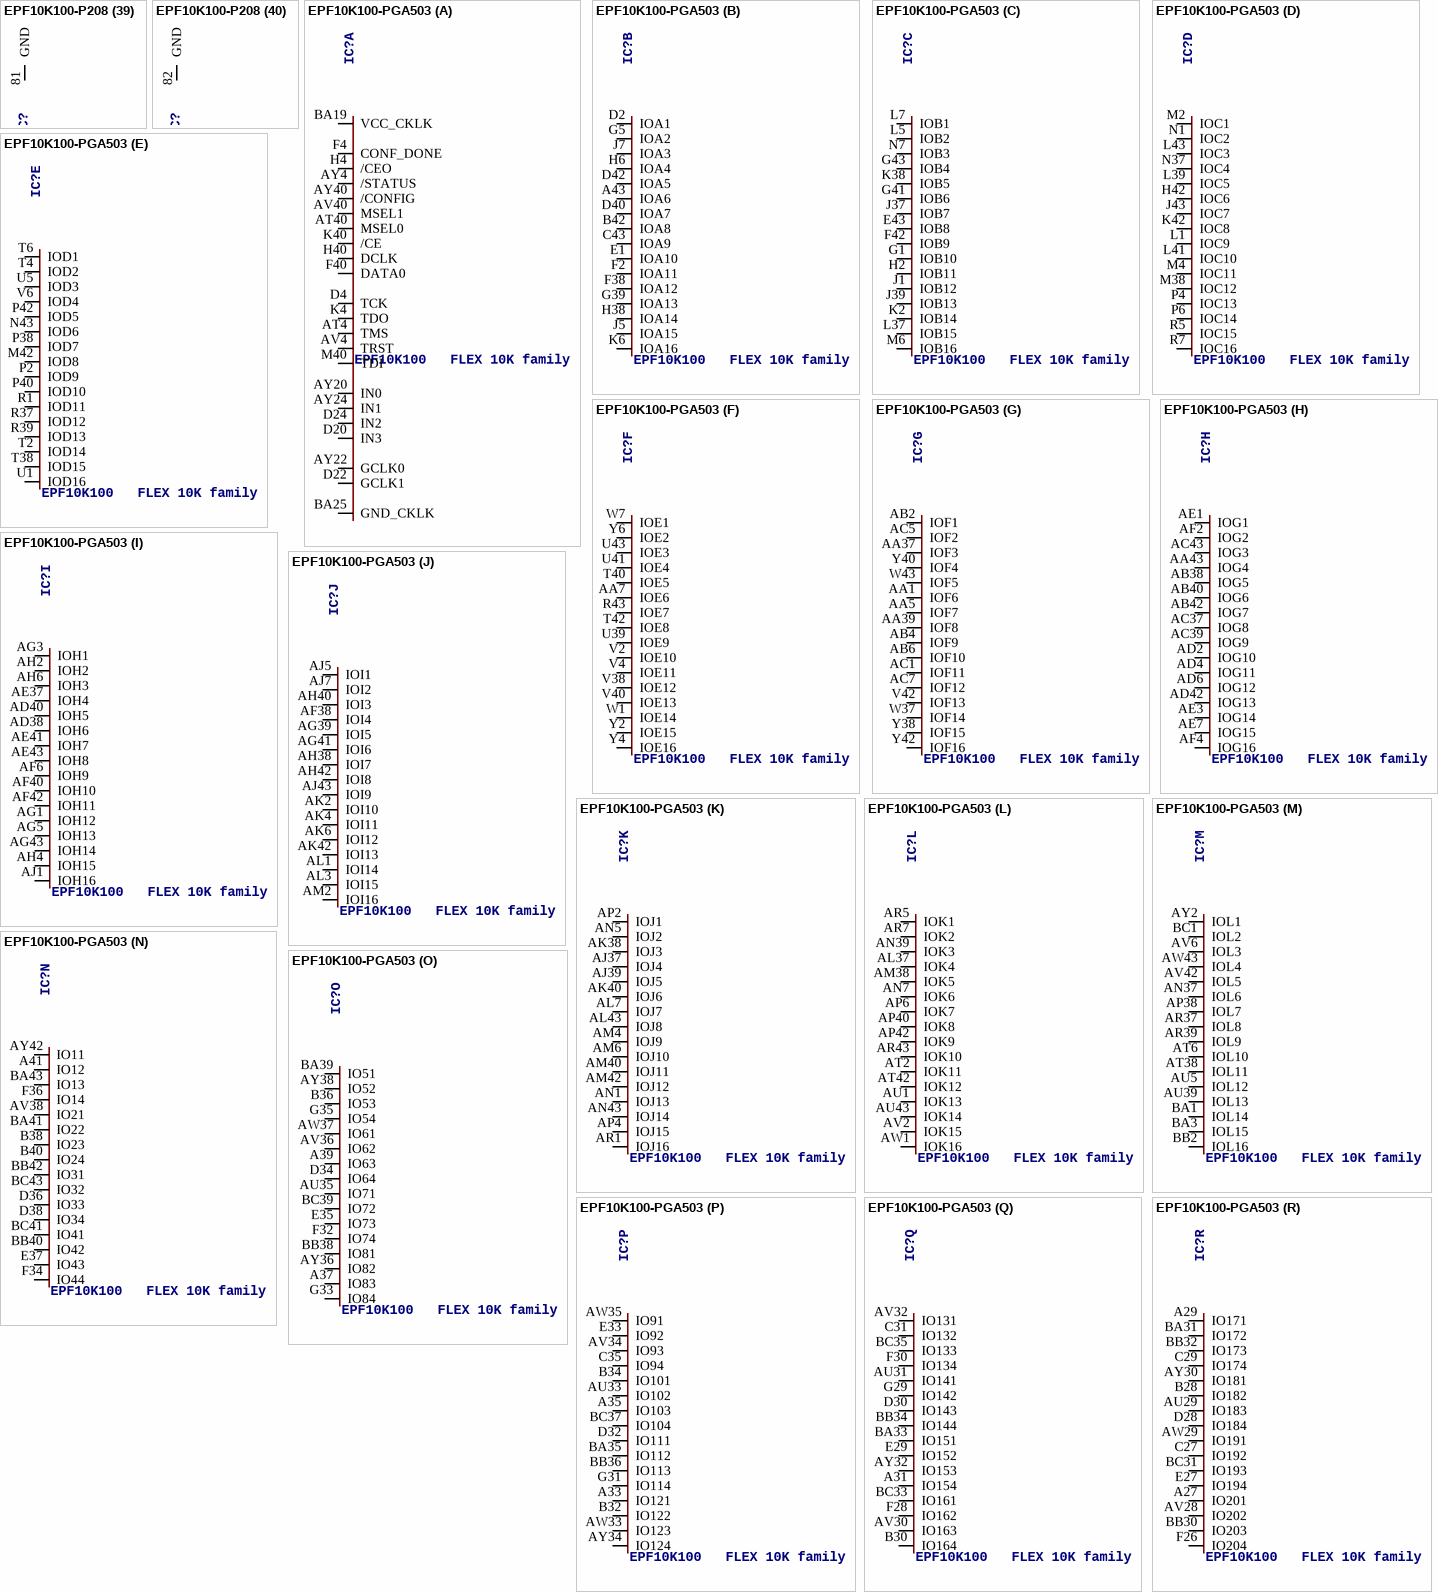
[diagram p16: symbols EPF10K100-P208 to EPF10K100-PGA503]

## EPF10K100-P208
designator IC?, comment EPF10K100   FLEX 10K family
MPN: EPF10K100EQC208-1; OC_FARNELL: unknown; OC_NEWARK: 51R8827
footprint PQFP208
part A pins: 1 TCK, 2 CONF_DONE, 3 /CEO, 4 TDO, 50 TMS, 51 TRST, 52 /STATUS, 78 IN0, 79 GCLK0, 80 IN1, 105 /CONFIG, 107 MSEL1, 108 MSEL0, 137 VCC_CKLK, 153 TDI, 154 /CE, 155 DCLK, 156 DATA0, 182 IN2, 183 GCLK1, 184 IN3, 185 GND_CKLK
part B pins: 7 IOA1, 8 IOA2, 9 IOA3, 10 IOA4, 11 IOB1, 12 IOB2, 13 IOB3, 142 IOB4, 143 IOB5, 144 IOB6, 147 IOB7, 148 IOA5, 149 IOA6, 150 IOA7
part C pins: 14 IOC1, 15 IOC2, 16 IOD1, 17 IOD2, 18 IOD3, 19 IOD4, 133 IOD5, 134 IOD6, 135 IOD7, 136 IOC3, 139 IOC4, 140 IOC5, 141 IOC6
part D pins: 24 IOE1, 25 IOE2, 26 IOF1, 27 IOF2, 28 IOG1, 29 IOG2, 121 IOG3, 122 IOG4, 125 IOF3, 126 IOF4, 127 IOF5, 128 IOE3, 131 IOE4, 132 IOE5
part E pins: 30 IOH1, 31 IOH2, 36 IOH3, 37 IOI1, 38 IOI2, 39 IOJ1, 40 IOJ2, 115 IOJ3, 116 IOI3, 119 IOH4, 120 IOH5
part F pins: 41 IOK1, 44 IOK2, 45 IOL1, 46 IOL2, 47 IOL3, 111 IOL4, 112 IOL5, 113 IOK3, 114 IOK4
part G pins: 94 IO131, 95 IO91, 96 IO81, 97 IO71, 99 IO61, 100 IO51, 101 IO41, 102 IO31, 103 IO21, 104 IO11, 157 IO92, 158 IO101, 159 IO111, 160 IO121, 161 IO122, 162 IO132
part H pins: 87 IO211, 88 IO191, 89 IO181, 90 IO161, 92 IO151, 93 IO141, 163 IO142, 164 IO143, 166 IO152, 167 IO162, 168 IO171, 169 IO182, 170 IO192, 172 IO201, 173 IO212, 174 IO221
part I pins: 70 IO311, 71 IO301, 73 IO291, 74 IO281, 75 IO271, 83 IO251, 85 IO241, 86 IO231, 175 IO222, 176 IO232, 177 IO242, 179 IO252, 180 IO261, 186 IO272, 187 IO282, 189 IO302
part J pins: 58 IO421, 60 IO401, 61 IO402, 62 IO361, 63 IO351, 64 IO352, 65 IO341, 67 IO331, 68 IO332, 69 IO321, 190 IO333, 191 IO353, 192 IO371, 193 IO381, 195 IO391, 196 IO411
part K pins: 53 IO521, 54 IO511, 55 IO481, 56 IO451, 57 IO431, 197 IO432, 198 IO441, 199 IO452, 200 IO461, 202 IO471, 203 IO482, 204 IO491, 205 IO501, 206 IO502, 207 IO512, 208 IO522
part L pins: 6 VCC (power)
part M pins: 23 VCC (power)
part N pins: 35 VCC (power)
part O pins: 43 VCC (power)
part P pins: 76 VCC (power)
part Q pins: 77 VCC (power)
part R pins: 106 VCC (power)
part S pins: 109 VCC (power)
part T pins: 117 VCC (power)
part U pins: 145 VCC (power)
part V pins: 5 VCCIO (power)
part W pins: 22 VCCIO (power)
part X pins: 34 VCCIO (power)
part Y pins: 42 VCCIO (power)
part Z pins: 66 VCCIO (power)
part 27 pins: 84 VCCIO (power)
part 28 pins: 98 VCCIO (power)
part 29 pins: 110 VCCIO (power)
part 30 pins: 118 VCCIO (power)
part 31 pins: 138 VCCIO (power)
part 32 pins: 146 VCCIO (power)
part 33 pins: 165 VCCIO (power)
part 34 pins: 178 VCCIO (power)
part 35 pins: 194 VCCIO (power)
part 36 pins: 21 GND (power)
part 37 pins: 33 GND (power)
part 38 pins: 49 GND (power)
part 39 pins: 81 GND (power)
part 40 pins: 82 GND (power)
part 41 pins: 123 GND (power)
part 42 pins: 129 GND (power)
part 43 pins: 151 GND (power)
part 44 pins: 20 GNDIO (power)
part 45 pins: 32 GNDIO (power)
part 46 pins: 48 GNDIO (power)
part 47 pins: 59 GNDIO (power)
part 48 pins: 72 GNDIO (power)
part 49 pins: 91 GNDIO (power)
part 50 pins: 124 GNDIO (power)
part 51 pins: 130 GNDIO (power)
part 52 pins: 152 GNDIO (power)
part 53 pins: 171 GNDIO (power)
part 54 pins: 188 GNDIO (power)
part 55 pins: 201 GNDIO (power)
part 56 pins: 181 VCC (power)

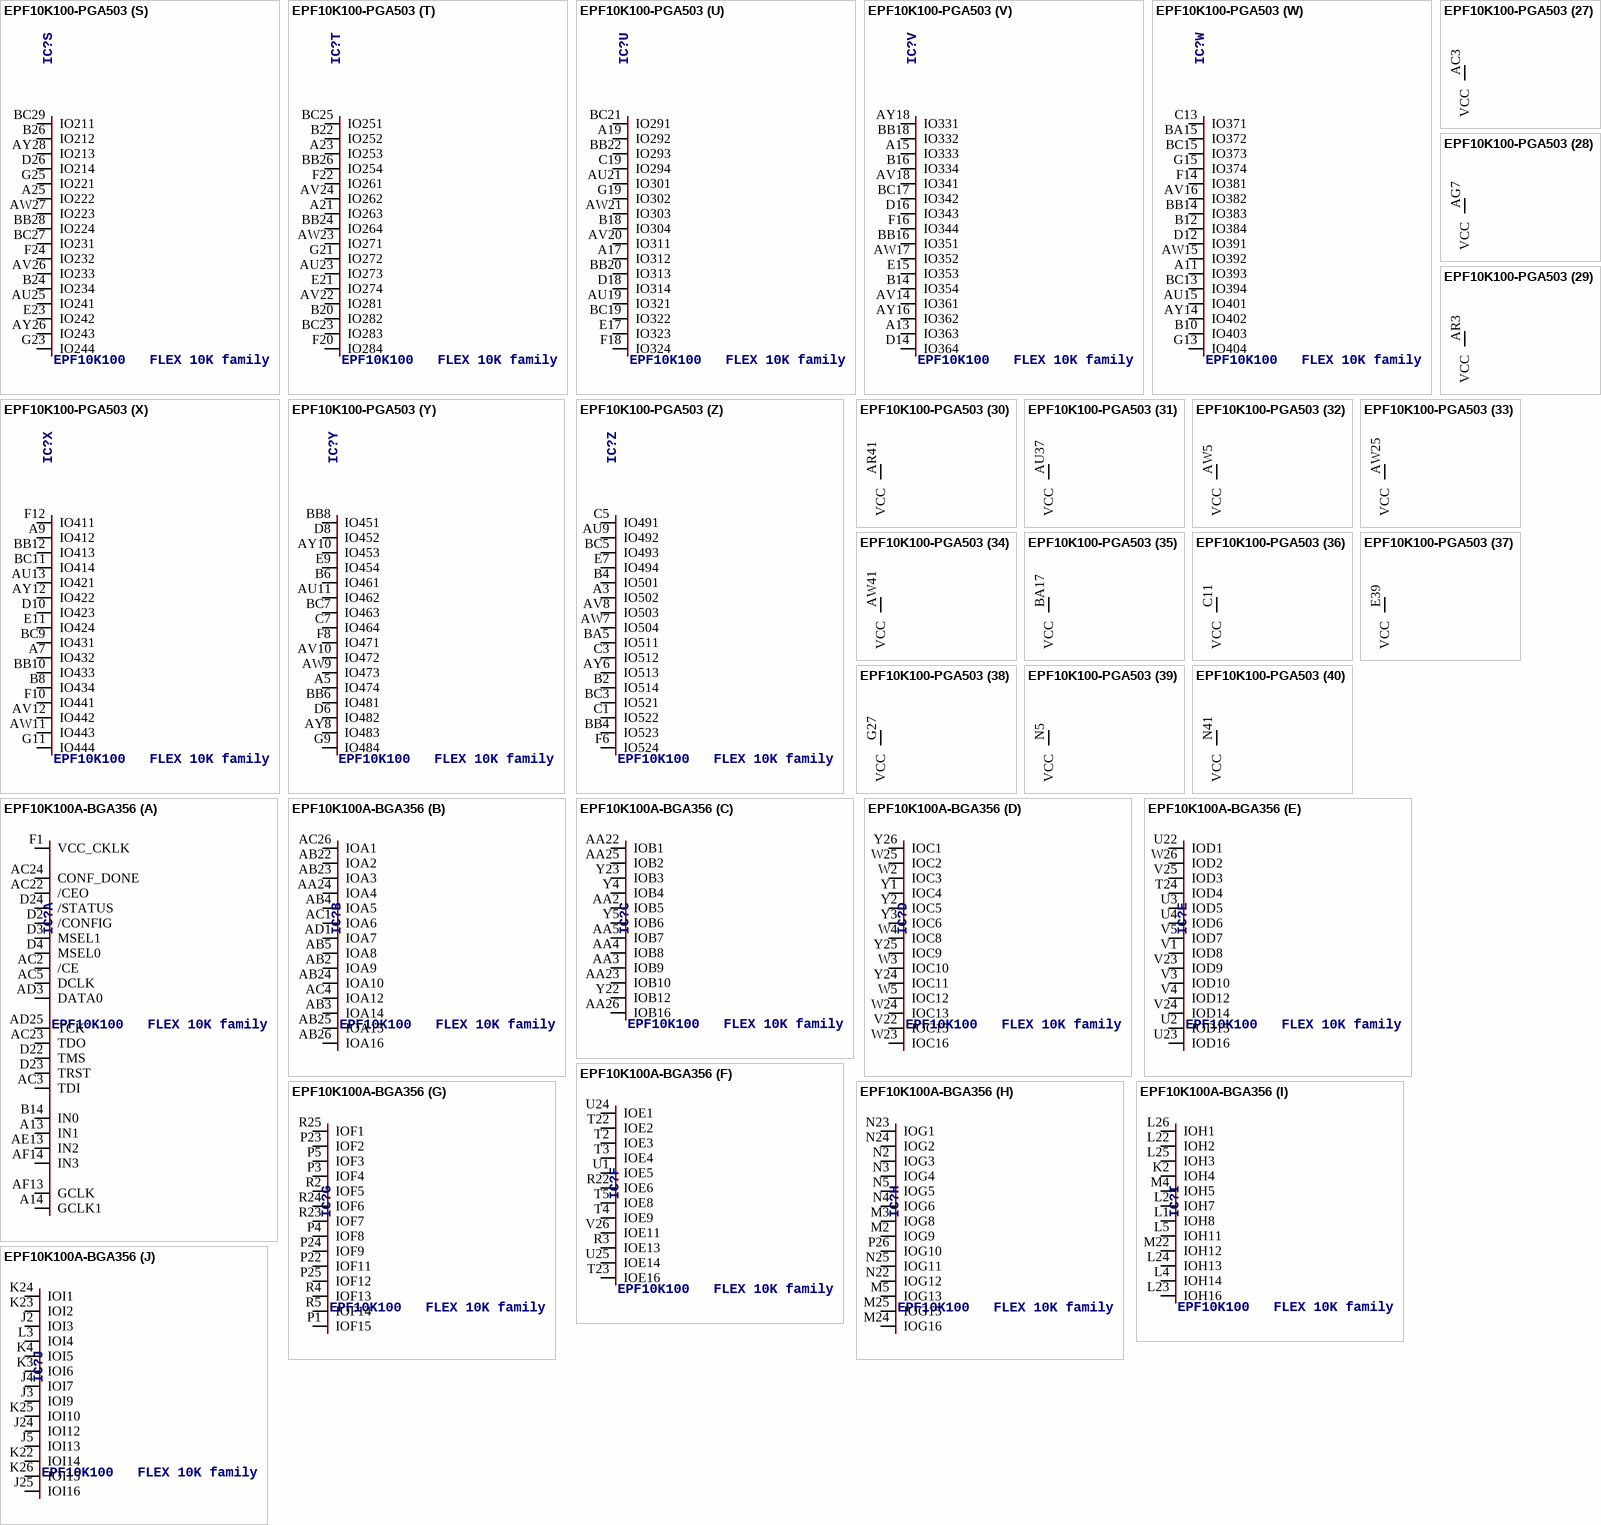
[diagram p17: symbols EPF10K100-PGA503 to EPF10K100A-BGA356]

## EPF10K100-PGA503
designator IC?, comment EPF10K100   FLEX 10K family
OC_FARNELL: unknown; OC_NEWARK: unknown
footprint PGA503
part A pins: AT4 TMS, AT40 MSEL0, AV4 TRST, AV40 MSEL1, AY4 /STATUS, AY20 IN0, AY22 GCLK0, AY24 IN1, AY40 /CONFIG, BA19 VCC_CKLK, BA25 GND_CKLK, D4 TCK, D20 IN3, D22 GCLK1, D24 IN2, F4 CONF_DONE, F40 DATA0, H4 /CEO, H40 DCLK, K4 TDO, K40 /CE, M40 TDI
part B pins: A43 IOA6, B42 IOA8, C43 IOA9, D2 IOA1, D40 IOA7, D42 IOA5, E1 IOA10, F2 IOA11, F38 IOA12, G5 IOA2, G39 IOA13, H6 IOA4, H38 IOA14, J5 IOA15, J7 IOA3, K6 IOA16
part C pins: E43 IOB8, F42 IOB9, G1 IOB10, G41 IOB6, G43 IOB4, H2 IOB11, J1 IOB12, J37 IOB7, J39 IOB13, K2 IOB14, K38 IOB5, L5 IOB2, L7 IOB1, L37 IOB15, M6 IOB16, N7 IOB3
part D pins: H42 IOC6, J43 IOC7, K42 IOC8, L1 IOC9, L39 IOC5, L41 IOC10, L43 IOC3, M2 IOC1, M4 IOC11, M38 IOC12, N1 IOC2, N37 IOC4, P4 IOC13, P6 IOC14, R5 IOC15, R7 IOC16
part E pins: M42 IOD8, N43 IOD6, P2 IOD9, P38 IOD7, P40 IOD10, P42 IOD5, R1 IOD11, R37 IOD12, R39 IOD13, T2 IOD14, T4 IOD2, T6 IOD1, T38 IOD15, U1 IOD16, U5 IOD3, V6 IOD4
part F pins: AA7 IOE6, R43 IOE7, T40 IOE5, T42 IOE8, U39 IOE9, U41 IOE4, U43 IOE3, V2 IOE10, V4 IOE11, V38 IOE12, V40 IOE13, W1 IOE14, W7 IOE1, Y2 IOE15, Y4 IOE16, Y6 IOE2
part G pins: AA1 IOF6, AA5 IOF7, AA37 IOF3, AA39 IOF8, AB2 IOF1, AB4 IOF9, AB6 IOF10, AC1 IOF11, AC5 IOF2, AC7 IOF12, V42 IOF13, W37 IOF14, W43 IOF5, Y38 IOF15, Y40 IOF4, Y42 IOF16
part H pins: AA43 IOG4, AB38 IOG5, AB40 IOG6, AB42 IOG7, AC37 IOG8, AC39 IOG9, AC43 IOG3, AD2 IOG10, AD4 IOG11, AD6 IOG12, AD42 IOG13, AE1 IOG1, AE3 IOG14, AE7 IOG15, AF2 IOG2, AF4 IOG16
part I pins: AD38 IOH6, AD40 IOH5, AE37 IOH4, AE41 IOH7, AE43 IOH8, AF6 IOH9, AF40 IOH10, AF42 IOH11, AG1 IOH12, AG3 IOH1, AG5 IOH13, AG43 IOH14, AH2 IOH2, AH4 IOH15, AH6 IOH3, AJ1 IOH16
part J pins: AF38 IOI4, AG39 IOI5, AG41 IOI6, AH38 IOI7, AH40 IOI3, AH42 IOI8, AJ5 IOI1, AJ7 IOI2, AJ43 IOI9, AK2 IOI10, AK4 IOI11, AK6 IOI12, AK42 IOI13, AL1 IOI14, AL3 IOI15, AM2 IOI16
part K pins: AJ37 IOJ4, AJ39 IOJ5, AK38 IOJ3, AK40 IOJ6, AL7 IOJ7, AL43 IOJ8, AM4 IOJ9, AM6 IOJ10, AM40 IOJ11, AM42 IOJ12, AN1 IOJ13, AN5 IOJ2, AN43 IOJ14, AP2 IOJ1, AP4 IOJ15, AR1 IOJ16
part L pins: AL37 IOK4, AM38 IOK5, AN7 IOK6, AN39 IOK3, AP6 IOK7, AP40 IOK8, AP42 IOK9, AR5 IOK1, AR7 IOK2, AR43 IOK10, AT2 IOK11, AT42 IOK12, AU1 IOK13, AU43 IOK14, AV2 IOK15, AW1 IOK16
part M pins: AN37 IOL6, AP38 IOL7, AR37 IOL8, AR39 IOL9, AT6 IOL10, AT38 IOL11, AU5 IOL12, AU39 IOL13, AV6 IOL3, AV42 IOL5, AW43 IOL4, AY2 IOL1, BA1 IOL14, BA3 IOL15, BB2 IOL16, BC1 IOL2
part N pins: A41 IO12, AV38 IO21, AY42 IO11, B38 IO23, B40 IO24, BA41 IO22, BA43 IO13, BB40 IO42, BB42 IO31, BC41 IO41, BC43 IO32, D36 IO33, D38 IO34, E37 IO43, F34 IO44, F36 IO14
part O pins: A37 IO83, A39 IO63, AU35 IO71, AV36 IO62, AW37 IO61, AY36 IO82, AY38 IO52, B36 IO53, BA39 IO51, BB38 IO81, BC39 IO72, D34 IO64, E35 IO73, F32 IO74, G33 IO84, G35 IO54
part P pins: A33 IO121, A35 IO103, AU33 IO102, AV34 IO93, AW33 IO123, AW35 IO91, AY34 IO124, B32 IO122, B34 IO101, BA35 IO112, BB36 IO113, BC37 IO104, C35 IO94, D32 IO111, E33 IO92, G31 IO114
part Q pins: A31 IO154, AU31 IO141, AV30 IO163, AV32 IO131, AY32 IO153, B30 IO164, BA33 IO151, BB34 IO144, BC33 IO161, BC35 IO133, C31 IO132, D30 IO143, E29 IO152, F28 IO162, F30 IO134, G29 IO142
part R pins: A27 IO201, A29 IO171, AU29 IO183, AV28 IO202, AW29 IO191, AY30 IO181, B28 IO182, BA31 IO172, BB30 IO203, BB32 IO173, BC31 IO193, C27 IO192, C29 IO174, D28 IO184, E27 IO194, F26 IO204
part S pins: A25 IO222, AU25 IO241, AV26 IO233, AW27 IO223, AY26 IO243, AY28 IO213, B24 IO234, B26 IO212, BB28 IO224, BC27 IO231, BC29 IO211, D26 IO214, E23 IO242, F24 IO232, G23 IO244, G25 IO221
part T pins: A21 IO263, A23 IO253, AU23 IO273, AV22 IO281, AV24 IO262, AW23 IO271, B20 IO282, B22 IO252, BB24 IO264, BB26 IO254, BC23 IO283, BC25 IO251, E21 IO274, F20 IO284, F22 IO261, G21 IO272
part U pins: A17 IO312, A19 IO292, AU19 IO321, AU21 IO301, AV20 IO311, AW21 IO303, B18 IO304, BB20 IO313, BB22 IO293, BC19 IO322, BC21 IO291, C19 IO294, D18 IO314, E17 IO323, F18 IO324, G19 IO302
part V pins: A13 IO363, A15 IO333, AV14 IO361, AV18 IO341, AW17 IO352, AY16 IO362, AY18 IO331, B14 IO354, B16 IO334, BB16 IO351, BB18 IO332, BC17 IO342, D14 IO364, D16 IO343, E15 IO353, F16 IO344
part W pins: A11 IO393, AU15 IO401, AV16 IO382, AW15 IO392, AY14 IO402, B10 IO403, B12 IO384, BA15 IO372, BB14 IO383, BC13 IO394, BC15 IO373, C13 IO371, D12 IO391, F14 IO381, G13 IO404, G15 IO374
part X pins: A7 IO432, A9 IO412, AU13 IO421, AV12 IO442, AW11 IO443, AY12 IO422, B8 IO434, BB10 IO433, BB12 IO413, BC9 IO431, BC11 IO414, D10 IO423, E11 IO424, F10 IO441, F12 IO411, G11 IO444
part Y pins: A5 IO474, AU11 IO462, AV10 IO472, AW9 IO473, AY8 IO483, AY10 IO453, B6 IO461, BB6 IO481, BB8 IO451, BC7 IO463, C7 IO464, D6 IO482, D8 IO452, E9 IO454, F8 IO471, G9 IO484
part Z pins: A3 IO502, AU9 IO492, AV8 IO503, AW7 IO504, AY6 IO513, B2 IO514, B4 IO501, BA5 IO511, BB4 IO523, BC3 IO521, BC5 IO493, C1 IO522, C3 IO512, C5 IO491, E7 IO494, F6 IO524
part 27 pins: AC3 VCC (power)
part 28 pins: AG7 VCC (power)
part 29 pins: AR3 VCC (power)
part 30 pins: AR41 VCC (power)
part 31 pins: AU37 VCC (power)
part 32 pins: AW5 VCC (power)
part 33 pins: AW25 VCC (power)
part 34 pins: AW41 VCC (power)
part 35 pins: BA17 VCC (power)
part 36 pins: C11 VCC (power)
part 37 pins: E39 VCC (power)
part 38 pins: G27 VCC (power)
part 39 pins: N5 VCC (power)
part 40 pins: N41 VCC (power)
part 41 pins: W39 VCC (power)
part 42 pins: W5 VCCIO (power)
part 43 pins: AC41 VCCIO (power)
part 44 pins: AE5 VCCIO (power)
part 45 pins: AJ41 VCCIO (power)
part 46 pins: AL39 VCCIO (power)
part 47 pins: AU3 VCCIO (power)
part 48 pins: AU17 VCCIO (power)
part 49 pins: AW3 VCCIO (power)
part 50 pins: AW19 VCCIO (power)
part 51 pins: BA9 VCCIO (power)
part 52 pins: BA27 VCCIO (power)
part 53 pins: BA29 VCCIO (power)
part 54 pins: BA37 VCCIO (power)
part 55 pins: C9 VCCIO (power)
part 56 pins: C15 VCCIO (power)
part 57 pins: C25 VCCIO (power)
part 58 pins: C33 VCCIO (power)
part 59 pins: C37 VCCIO (power)
part 60 pins: E19 VCCIO (power)
part 61 pins: E41 VCCIO (power)
part 62 pins: G7 VCCIO (power)
part 63 pins: L3 VCCIO (power)
part 64 pins: R41 VCCIO (power)
part 65 pins: U3 VCCIO (power)
part 66 pins: U37 VCCIO (power)
part 67 pins: AA3 GND (power)
part 68 pins: AE39 GND (power)
part 69 pins: AL5 GND (power)
part 70 pins: AL41 GND (power)
part 71 pins: AU27 GND (power)
part 72 pins: AW39 GND (power)
part 73 pins: BA7 GND (power)
part 74 pins: BA13 GND (power)
part 75 pins: C17 GND (power)
part 76 pins: E3 GND (power)
part 77 pins: E5 GND (power)
part 78 pins: E25 GND (power)
part 79 pins: G37 GND (power)
part 80 pins: J3 GND (power)
part 81 pins: J41 GND (power)
part 82 pins: U7 GND (power)
part 83 pins: AA41 GNDIO (power)
part 84 pins: AG37 GNDIO (power)
part 85 pins: AJ3 GNDIO (power)
part 86 pins: AN3 GNDIO (power)
part 87 pins: AN41 GNDIO (power)
part 88 pins: AU7 GNDIO (power)
part 89 pins: AU41 GNDIO (power)
part 90 pins: AW13 GNDIO (power)
part 91 pins: AW31 GNDIO (power)
part 92 pins: BA11 GNDIO (power)
part 93 pins: BA21 GNDIO (power)
part 94 pins: BA23 GNDIO (power)
part 95 pins: C21 GNDIO (power)
part 96 pins: C23 GNDIO (power)
part 97 pins: C39 GNDIO (power)
part 98 pins: C41 GNDIO (power)
part 99 pins: E13 GNDIO (power)
part 100 pins: E31 GNDIO (power)
part 101 pins: G3 GNDIO (power)
part 102 pins: G17 GNDIO (power)
part 103 pins: N3 GNDIO (power)
part 104 pins: N39 GNDIO (power)
part 105 pins: R3 GNDIO (power)
part 106 pins: W3 GNDIO (power)
part 107 pins: W41 GNDIO (power)

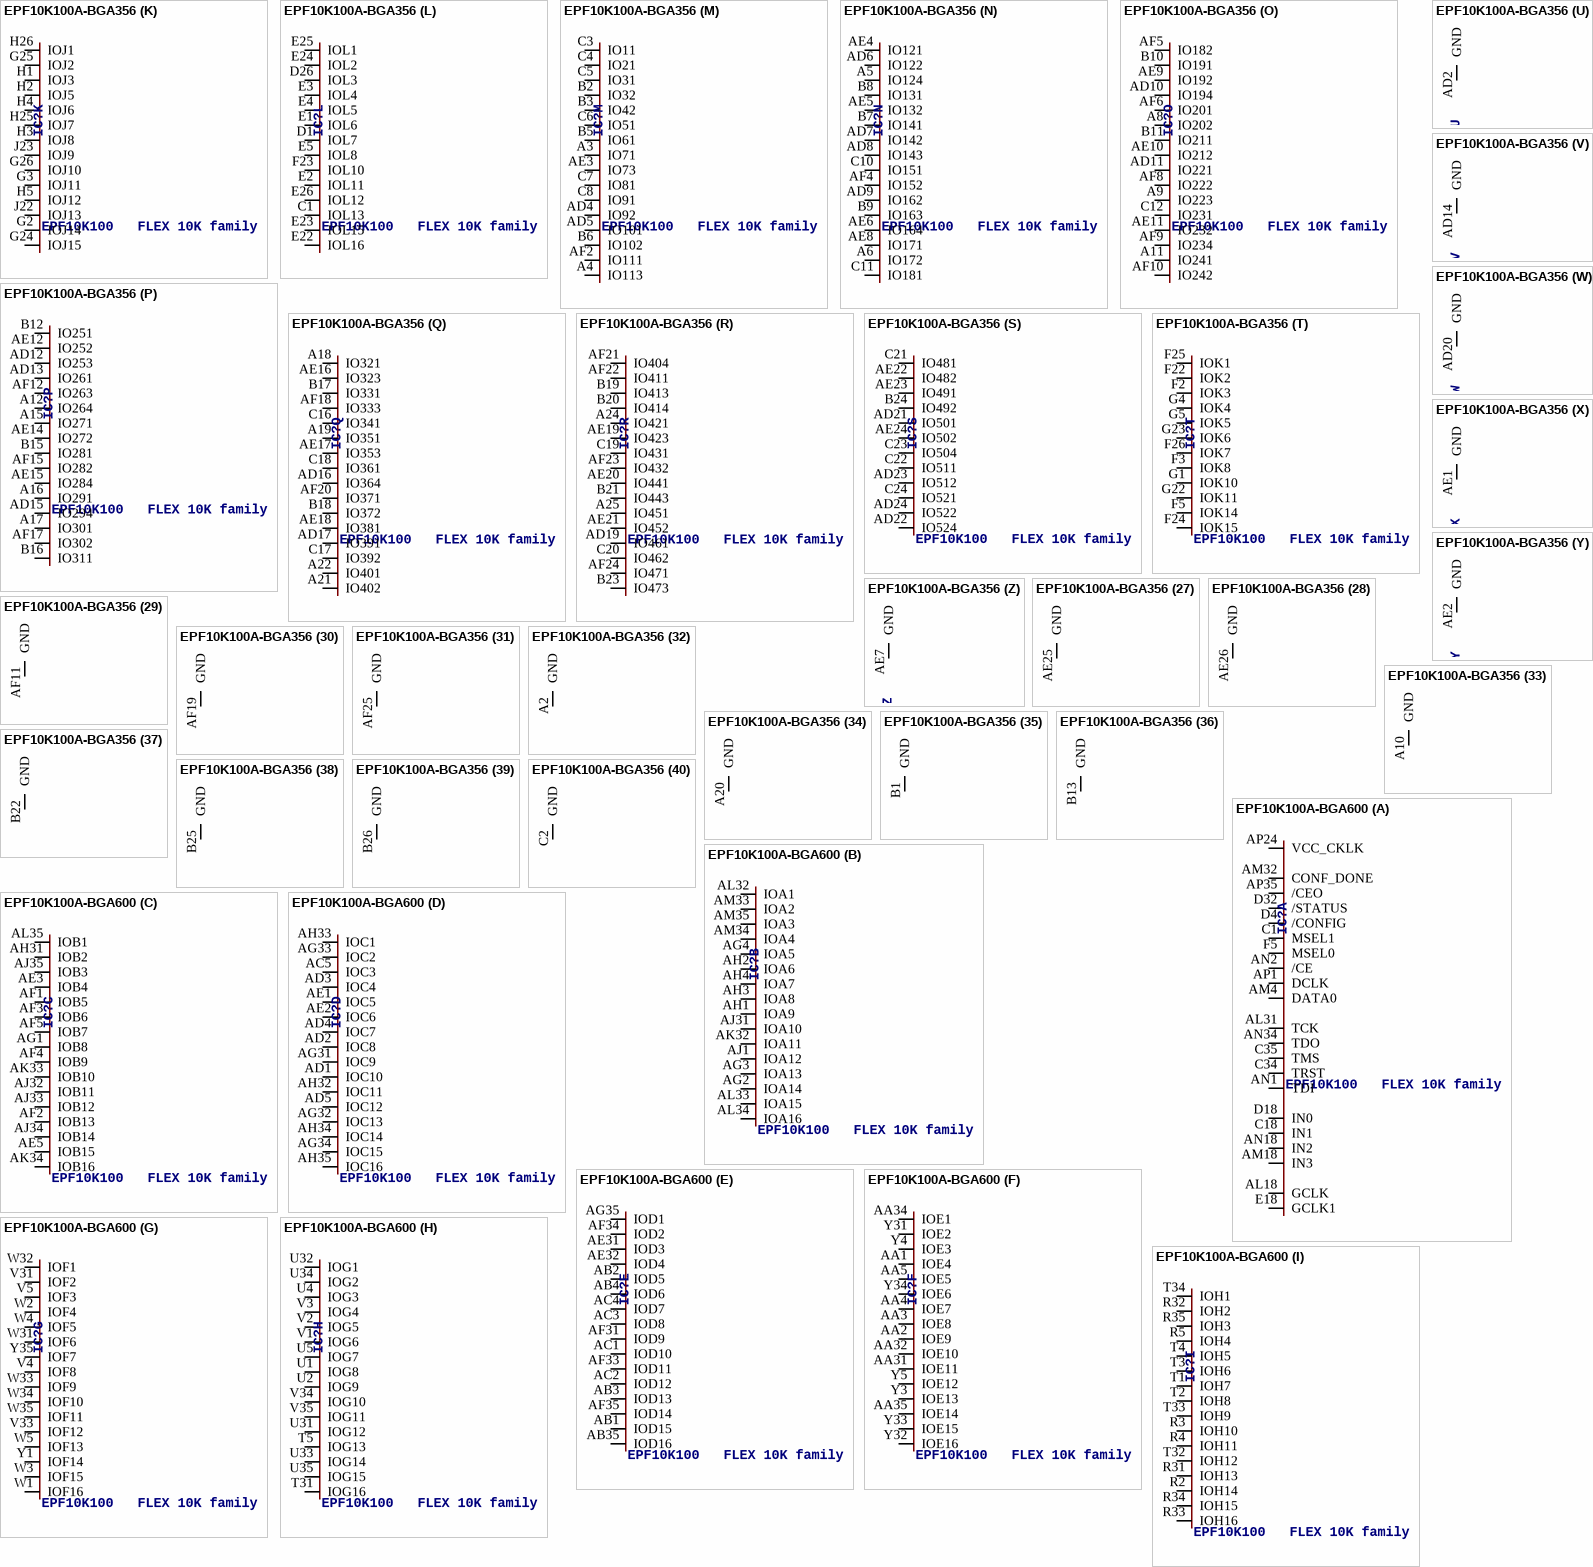
[diagram p18: symbols EPF10K100A-BGA356 to EPF10K100A-BGA600]

## EPF10K100A-BGA356
designator IC?, comment EPF10K100   FLEX 10K family
MPN: EPF10K100ABC356-1; OC_FARNELL: unknown; OC_NEWARK: 51R8777
footprint BGA356
part A pins: A13 IN1, A14 GCLK1, AC2 /CE, AC3 TDI, AC5 DCLK, AC22 /CEO, AC23 TDO, AC24 CONF_DONE, AD3 DATA0, AD25 TCK, AE13 IN2, AF13 GCLK, AF14 IN3, B14 IN0, D2 /CONFIG, D3 MSEL1, D4 MSEL0, D22 TMS, D23 TRST, D24 /STATUS, F1 VCC_CKLK
part B pins: AA24 IOA4, AB2 IOA9, AB3 IOA14, AB4 IOA5, AB5 IOA8, AB22 IOA2, AB23 IOA3, AB24 IOA10, AB25 IOA15, AB26 IOA16, AC1 IOA6, AC4 IOA12, AC26 IOA1, AD1 IOA7
part C pins: AA2 IOB5, AA3 IOB9, AA4 IOB8, AA5 IOB7, AA22 IOB1, AA23 IOB10, AA25 IOB2, AA26 IOB16, Y4 IOB4, Y5 IOB6, Y22 IOB12, Y23 IOB3
part D pins: V22 IOC15, W2 IOC3, W3 IOC10, W4 IOC8, W5 IOC12, W23 IOC16, W24 IOC13, W25 IOC2, Y1 IOC4, Y2 IOC5, Y3 IOC6, Y24 IOC11, Y25 IOC9, Y26 IOC1
part E pins: T24 IOD4, U2 IOD15, U3 IOD5, U4 IOD6, U22 IOD1, U23 IOD16, V1 IOD8, V3 IOD10, V4 IOD12, V5 IOD7, V23 IOD9, V24 IOD14, V25 IOD3, W26 IOD2
part F pins: R3 IOE13, R22 IOE6, T2 IOE3, T3 IOE4, T4 IOE9, T5 IOE8, T22 IOE2, T23 IOE16, U1 IOE5, U24 IOE1, U25 IOE14, V26 IOE11
part G pins: P1 IOF15, P3 IOF4, P4 IOF8, P5 IOF3, P22 IOF11, P23 IOF2, P24 IOF9, P25 IOF12, R2 IOF5, R4 IOF13, R5 IOF14, R23 IOF7, R24 IOF6, R25 IOF1
part H pins: M2 IOG9, M3 IOG8, M5 IOG13, M24 IOG16, M25 IOG15, N2 IOG3, N3 IOG4, N4 IOG6, N5 IOG5, N22 IOG12, N23 IOG1, N24 IOG2, N25 IOG11, P26 IOG10
part I pins: K2 IOH4, L1 IOH8, L2 IOH7, L4 IOH14, L5 IOH11, L22 IOH2, L23 IOH16, L24 IOH13, L25 IOH3, L26 IOH1, M4 IOH5, M22 IOH12
part J pins: J2 IOI3, J3 IOI9, J4 IOI7, J5 IOI13, J24 IOI12, J25 IOI16, K3 IOI6, K4 IOI5, K22 IOI14, K23 IOI2, K24 IOI1, K25 IOI10, K26 IOI15, L3 IOI4
part K pins: G2 IOJ14, G3 IOJ11, G24 IOJ15, G25 IOJ2, G26 IOJ10, H1 IOJ3, H2 IOJ5, H3 IOJ8, H4 IOJ6, H5 IOJ12, H25 IOJ7, H26 IOJ1, J22 IOJ13, J23 IOJ9
part L pins: C1 IOL13, D1 IOL7, D26 IOL3, E1 IOL6, E2 IOL11, E3 IOL4, E4 IOL5, E5 IOL8, E22 IOL16, E23 IOL15, E24 IOL2, E25 IOL1, E26 IOL12, F23 IOL10
part M pins: A3 IO71, A4 IO113, AD4 IO92, AD5 IO101, AE3 IO73, AF2 IO111, B2 IO32, B3 IO42, B5 IO61, B6 IO102, C3 IO11, C4 IO21, C5 IO31, C6 IO51, C7 IO81, C8 IO91
part N pins: A5 IO124, A6 IO172, AD6 IO122, AD7 IO142, AD8 IO143, AD9 IO162, AE4 IO121, AE5 IO132, AE6 IO164, AE8 IO171, AF4 IO152, B7 IO141, B8 IO131, B9 IO163, C10 IO151, C11 IO181
part O pins: A8 IO202, A9 IO223, A11 IO241, AD10 IO194, AD11 IO221, AE9 IO192, AE10 IO212, AE11 IO232, AF5 IO182, AF6 IO201, AF8 IO222, AF9 IO234, AF10 IO242, B10 IO191, B11 IO211, C12 IO231
part P pins: A12 IO264, A15 IO271, A16 IO291, A17 IO301, AD12 IO253, AD13 IO261, AD15 IO294, AE12 IO252, AE14 IO272, AE15 IO284, AF12 IO263, AF15 IO282, AF17 IO302, B12 IO251, B15 IO281, B16 IO311
part Q pins: A18 IO321, A19 IO351, A21 IO402, A22 IO401, AD16 IO364, AD17 IO391, AE16 IO323, AE17 IO353, AE18 IO381, AF18 IO333, AF20 IO371, B17 IO331, B18 IO372, C16 IO341, C17 IO392, C18 IO361
part R pins: A24 IO421, A25 IO451, AD19 IO461, AE19 IO423, AE20 IO441, AE21 IO452, AF21 IO404, AF22 IO411, AF23 IO432, AF24 IO471, B19 IO413, B20 IO414, B21 IO443, B23 IO473, C19 IO431, C20 IO462
part S pins: AD21 IO501, AD22 IO524, AD23 IO512, AD24 IO522, AE22 IO482, AE23 IO491, AE24 IO502, B24 IO492, C21 IO481, C22 IO511, C23 IO504, C24 IO521
part T pins: F2 IOK3, F3 IOK8, F5 IOK14, F22 IOK2, F24 IOK15, F25 IOK1, F26 IOK7, G1 IOK10, G4 IOK4, G5 IOK5, G22 IOK11, G23 IOK6
part U pins: AD2 GND (power)
part V pins: AD14 GND (power)
part W pins: AD20 GND (power)
part X pins: AE1 GND (power)
part Y pins: AE2 GND (power)
part Z pins: AE7 GND (power)
part 27 pins: AE25 GND (power)
part 28 pins: AE26 GND (power)
part 29 pins: AF11 GND (power)
part 30 pins: AF19 GND (power)
part 31 pins: AF25 GND (power)
part 32 pins: A2 GND (power)
part 33 pins: A10 GND (power)
part 34 pins: A20 GND (power)
part 35 pins: B1 GND (power)
part 36 pins: B13 GND (power)
part 37 pins: B22 GND (power)
part 38 pins: B25 GND (power)
part 39 pins: B26 GND (power)
part 40 pins: C2 GND (power)
part 41 pins: C9 GND (power)
part 42 pins: C13 GND (power)
part 43 pins: C25 GND (power)
part 44 pins: H23 GND (power)
part 45 pins: J26 GND (power)
part 46 pins: K1 GND (power)
part 47 pins: M1 GND (power)
part 48 pins: N26 GND (power)
part 49 pins: R1 GND (power)
part 50 pins: R26 GND (power)
part 51 pins: T1 GND (power)
part 52 pins: U26 GND (power)
part 53 pins: W1 GND (power)
part 54 pins: AA1 VCC (power)
part 55 pins: AD26 VCC (power)
part 56 pins: AF1 VCC (power)
part 57 pins: AF26 VCC (power)
part 58 pins: A1 VCC (power)
part 59 pins: A26 VCC (power)
part 60 pins: C14 VCC (power)
part 61 pins: C26 VCC (power)
part 62 pins: D5 VCC (power)
part 63 pins: H22 VCC (power)
part 64 pins: J1 VCC (power)
part 65 pins: M26 VCC (power)
part 66 pins: N1 VCC (power)
part 67 pins: T26 VCC (power)
part 68 pins: U5 VCC (power)
part 69 pins: AB1 VCCIO (power)
part 70 pins: AC25 VCCIO (power)
part 71 pins: AD18 VCCIO (power)
part 72 pins: AF3 VCCIO (power)
part 73 pins: AF7 VCCIO (power)
part 74 pins: AF16 VCCIO (power)
part 75 pins: A7 VCCIO (power)
part 76 pins: A23 VCCIO (power)
part 77 pins: B4 VCCIO (power)
part 78 pins: C15 VCCIO (power)
part 79 pins: D25 VCCIO (power)
part 80 pins: F4 VCCIO (power)
part 81 pins: H24 VCCIO (power)
part 82 pins: K5 VCCIO (power)
part 83 pins: M23 VCCIO (power)
part 84 pins: P2 VCCIO (power)
part 85 pins: T25 VCCIO (power)
part 86 pins: V2 VCCIO (power)
part 87 pins: W22 VCCIO (power)

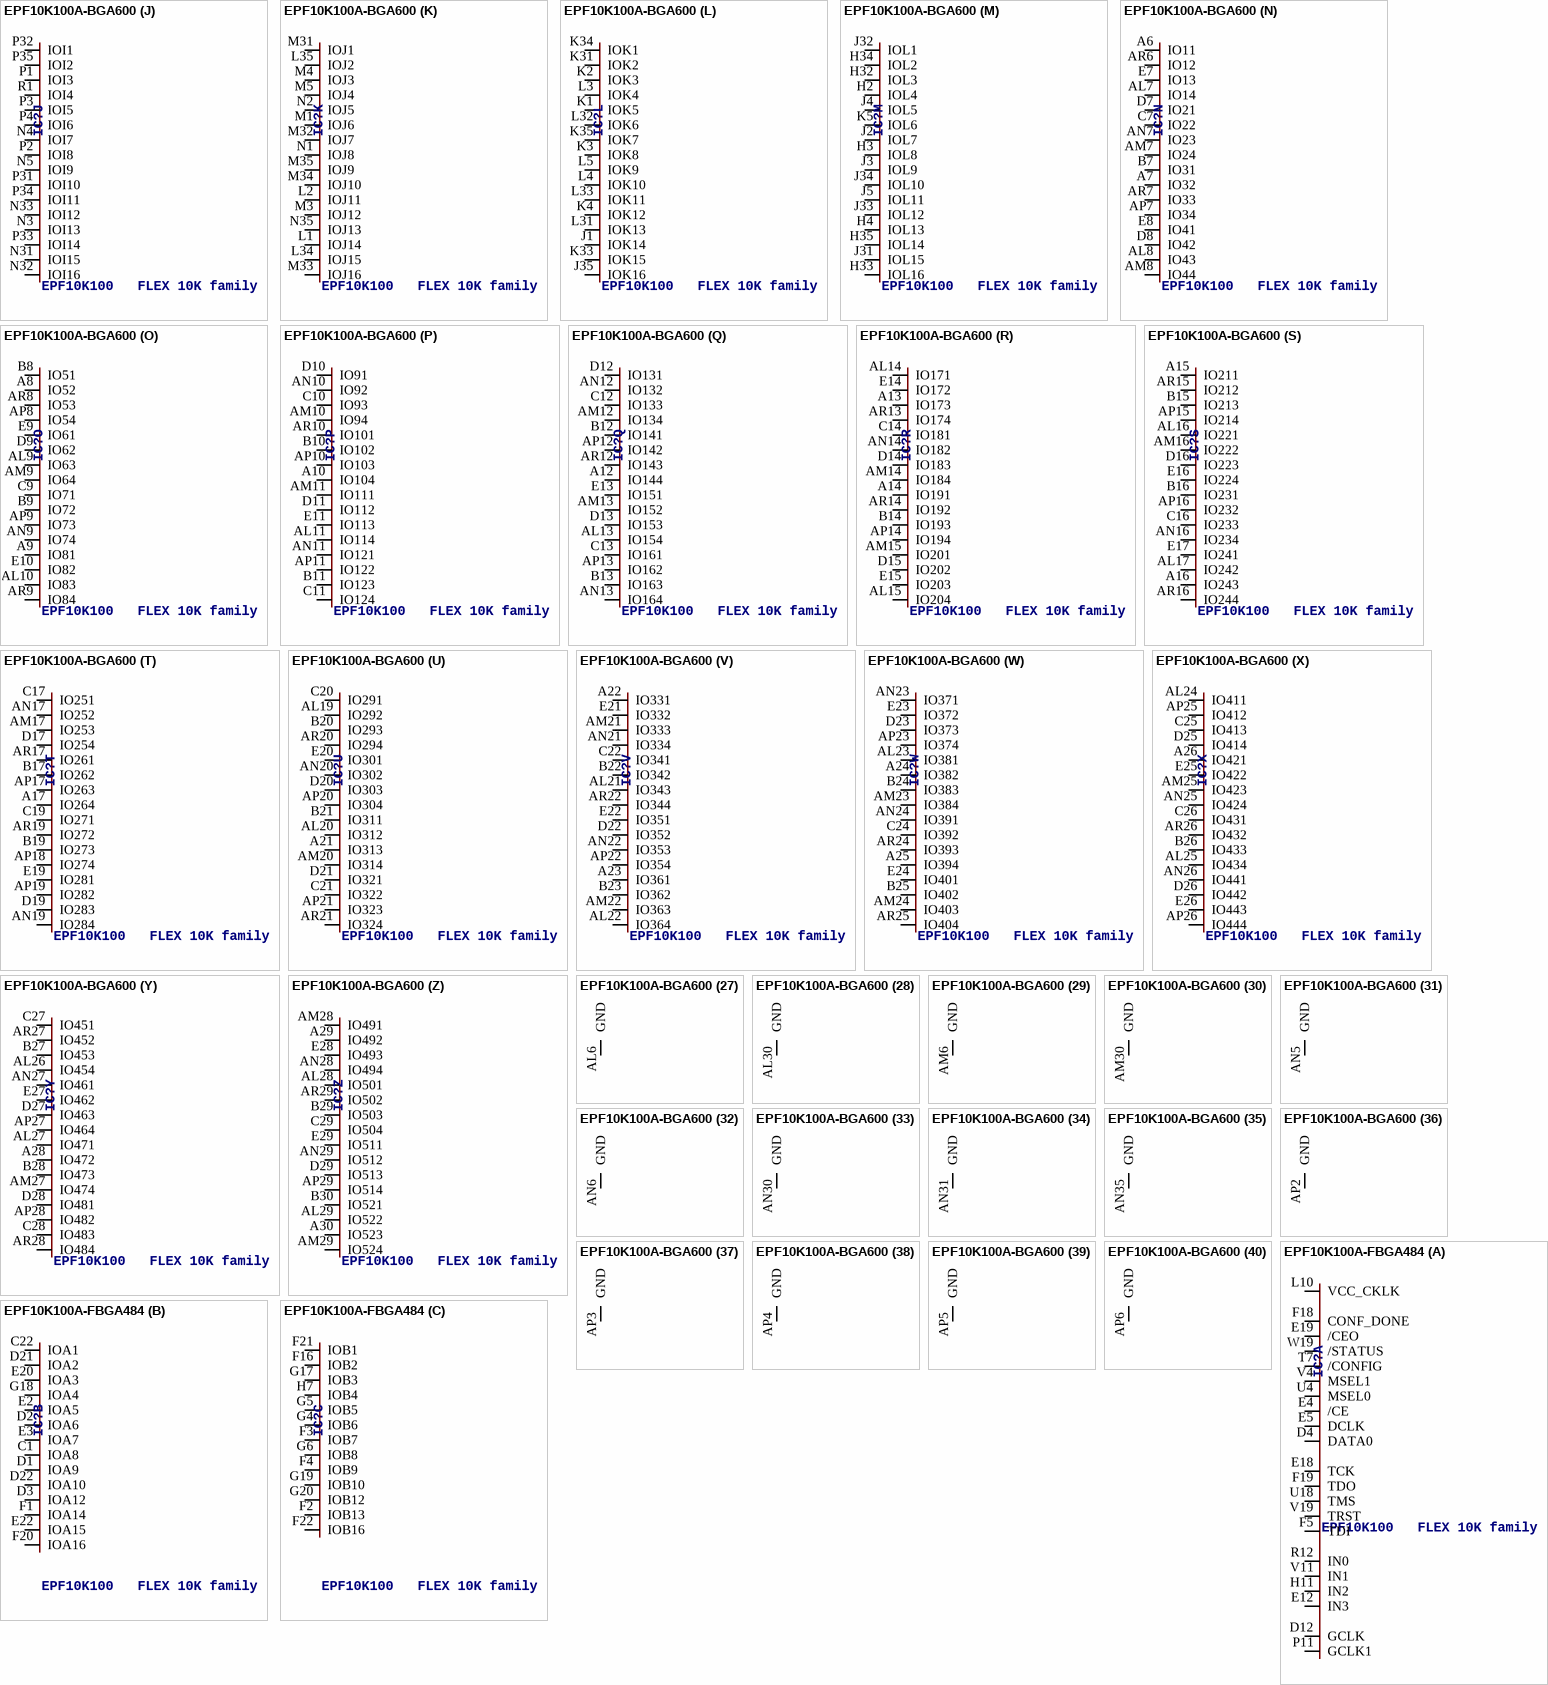
[diagram p19: symbols EPF10K100A-BGA600 to EPF10K100A-FBGA484]